# Altium schematic symbol library mcu_stm32.SchLib: 42 symbols (part 2 of 5)
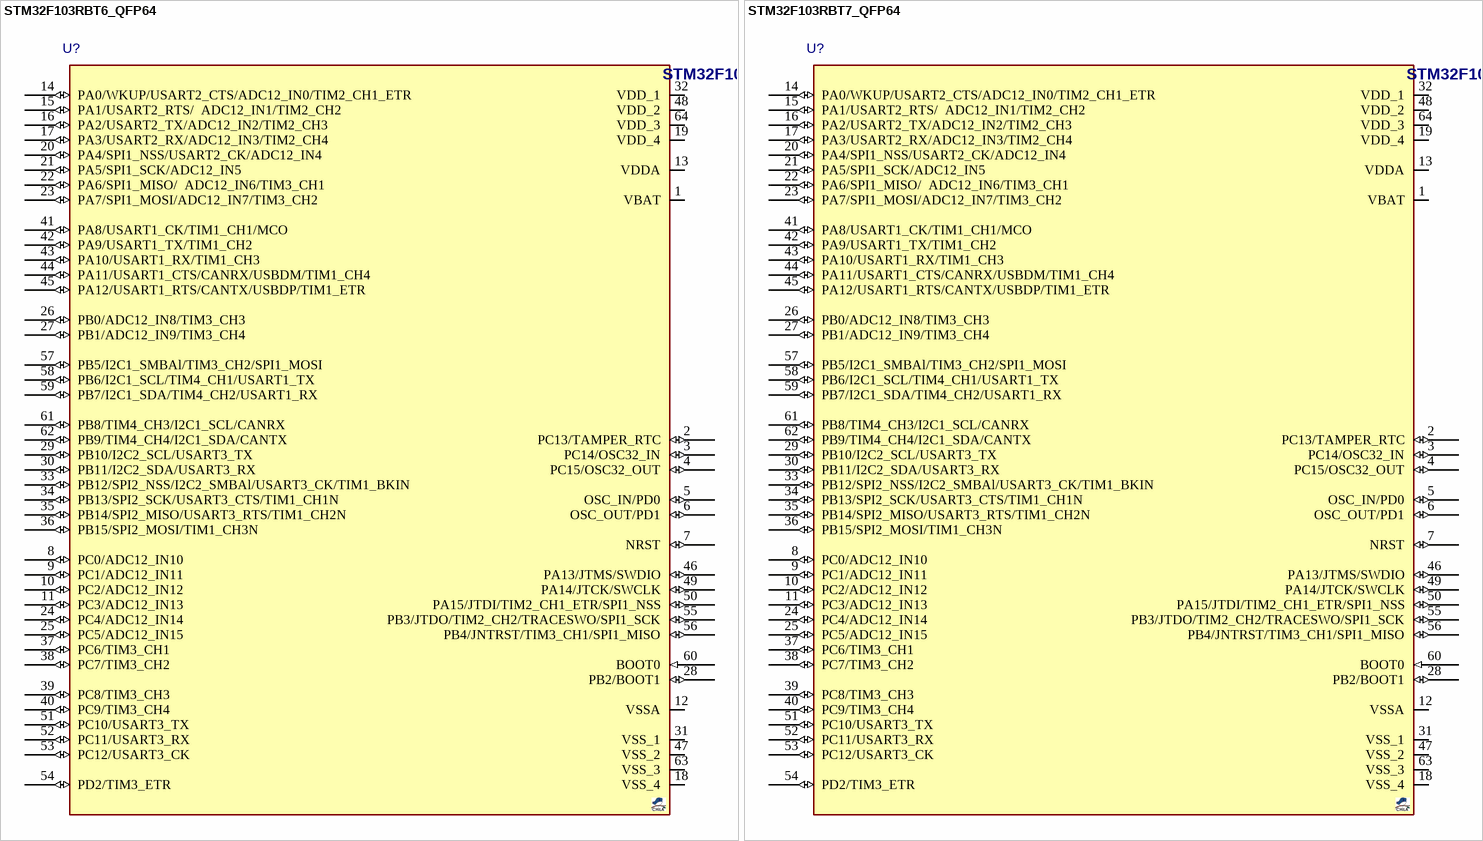
[diagram p30: symbols STM32F103RBT6_QFP64 to STM32F103RBT7_QFP64]

## STM32F103RBT6_QFP64
designator U?, comment STM32F103RBT6  (value not drawn)
MCU, STM32 ARM 32-bit, Cortex M3, 128KB FLASH, 20KB SRAM; DESC: USB, CAN, I2C, SPI, UART; MANF: ST; PARAM2: 2~3.6VCC, 72MHz, 2X12Bit ADC; PARAM: 128KB FLASH, 20KB SRAM, -40~85oC; MANF_P#: STM32F103RBT6; PRICE: 7$; VALUE: STM32F103RBT6; PACKAGE: QFP-64
footprint QFG50_64 (A64 (CYPRESS), TQFP64, LQFP64, VQ44, VQG44, 10X10mm, Pitch: 0.5mm)
pins: 1 VBAT (power), 2 PC13/TAMPER_RTC (io) "PC13-TAMPER-RTC/PC13/TAMPER-RTC", 3 PC14/OSC32_IN (io) "PC14-OSC32_IN/PC14/OSC32_IN", 4 PC15/OSC32_OUT (io) "PC15-OSC32_OUT/PC15/OSC32_OUT", 5 OSC_IN/PD0 (io) "PD0/OSC_IN/CAN_RX", 6 OSC_OUT/PD1 (io) "PD1/OSC_OUT/CAN_TX", 7 NRST (io), 8 PC0/ADC12_IN10 (io) "PC0/ADC123_IN10", 9 PC1/ADC12_IN11 (io) "PC1/ADC123_IN11", 10 PC2/ADC12_IN12 (io) "PC2/ADC123_IN12", 11 PC3/ADC12_IN13 (io) "PC3/ADC123_IN13", 12 VSSA (power), 13 VDDA (power), 14 PA0/WKUP/USART2_CTS/ADC12_IN0/TIM2_CH1_ETR (io) "PA0-WKUP/PA0/WKUP/USART2_CTS/ADC123_IN0/TIM2_CH1_ETR/TIM5_CH1/TIM8_ETR", 15 PA1/USART2_RTS/  ADC12_IN1/TIM2_CH2 (io) "PA1/USART2_RTS/ADC123_IN1/TIM5_CH2/TIM2_CH2", 16 PA2/USART2_TX/ADC12_IN2/TIM2_CH3 (io) "PA2/USART2_TX/TIM5_CH3/ADC123_IN2/TIM2_CH3", 17 PA3/USART2_RX/ADC12_IN3/TIM2_CH4 (io) "PA3/USART2_RX/TIM5_CH4/ADC123_IN3/TIM2_CH4", 18 VSS_4 (power), 19 VDD_4 (power), 20 PA4/SPI1_NSS/USART2_CK/ADC12_IN4 (io) "PA4/SPI1_NSS/USART2_CK/DAC_OUT1/ADC12_IN4", 21 PA5/SPI1_SCK/ADC12_IN5 (io) "PA5/SPI1_SCK/DAC_OUT2/ADC12_IN5", 22 PA6/SPI1_MISO/  ADC12_IN6/TIM3_CH1 (io) "PA6/SPI1_MISO/TIM8_BKIN/ADC12_IN6/TIM3_CH1/TIM1_BKIN", 23 PA7/SPI1_MOSI/ADC12_IN7/TIM3_CH2 (io) "PA7/SPI1_MOSI/TIM8_CH1N/ADC12_IN7/TIM3_CH2/TIM1_CH1N", 24 PC4/ADC12_IN14 (io), 25 PC5/ADC12_IN15 (io), 26 PB0/ADC12_IN8/TIM3_CH3 (io) "PB0/ADC12_IN8/TIM3_CH3/TIM8_CH2N/TIM1_CH2N", 27 PB1/ADC12_IN9/TIM3_CH4 (io) "PB1/ADC12_IN9/TIM3_CH4/TIM8_CH3N/TIM1_CH3N", 28 PB2/BOOT1 (io), 29 PB10/I2C2_SCL/USART3_TX (io) "PB10/I2C2_SCL/USART3_TX/TIM2_CH3", 30 PB11/I2C2_SDA/USART3_RX (io) "PB11/I2C2_SDA/USART3_RX/TIM2_CH4", 31 VSS_1 (power), 32 VDD_1 (power), 33 PB12/SPI2_NSS/I2C2_SMBAl/USART3_CK/TIM1_BKIN (io) "PB12/SPI2_NSS/I2S2_WS/I2C2_SMBA/USART3_CK/TIM1_BKIN", 34 PB13/SPI2_SCK/USART3_CTS/TIM1_CH1N (io) "PB13/SPI2_SCK/I2S2_CK/USART3_CTS/TIM1_CH1N", 35 PB14/SPI2_MISO/USART3_RTS/TIM1_CH2N (io) "PB14/SPI2_MISO/TIM1_CH2N/USART3_RTS", 36 PB15/SPI2_MOSI/TIM1_CH3N (io) "PB15/SPI2_MOSI/I2S2_SD/TIM1_CH3N", 37 PC6/TIM3_CH1 (io) "PC6/I2S2_MCK/TIM8_CH1/SDIO_D6/TIM3_CH1", 38 PC7/TIM3_CH2 (io) "PC7/I2S3_MCK/TIM8_CH2/SDIO_D7/TIM3_CH2", 39 PC8/TIM3_CH3 (io) "PC8/TIM8_CH3/SDIO_D0/TIM3_CH3", 40 PC9/TIM3_CH4 (io) "PC9/TIM8_CH4/SDIO_D1/TIM3_CH4", 41 PA8/USART1_CK/TIM1_CH1/MCO (io), 42 PA9/USART1_TX/TIM1_CH2 (io), 43 PA10/USART1_RX/TIM1_CH3 (io), 44 PA11/USART1_CTS/CANRX/USBDM/TIM1_CH4 (io) "PA11/USART1_CTS/USBDM/CAN_RX/TIM1_CH4", 45 PA12/USART1_RTS/CANTX/USBDP/TIM1_ETR (io) "PA12/USART1_RTS/USBDP/CAN_TX/TIM1_ETR", 46 PA13/JTMS/SWDIO (io) "PA13/JTMS-SWDIO", 47 VSS_2 (power), 48 VDD_2 (power), 49 PA14/JTCK/SWCLK (io) "PA14/JTCK-SWCLK", 50 PA15/JTDI/TIM2_CH1_ETR/SPI1_NSS (io) "PA15/JTDI/SPI3_NSS/I2S3_WS/TIM2_CH1_ETR/SPI1_NSS", 51 PC10/USART3_TX (io) "PC10/UART4_TX/SDIO_D2/USART3_TX", 52 PC11/USART3_RX (io) "PC11/UART4_RX/SDIO_D3/USART3_RX", 53 PC12/USART3_CK (io) "PC12/UART5_TX/SDIO_CK/USART3_CK", 54 PD2/TIM3_ETR (io) "PD2/TIM3_ETR/UART5_RX/SDIO_CMD", 55 PB3/JTDO/TIM2_CH2/TRACESWO/SPI1_SCK (io) "PB3/JTDO/SPI3_SCK/I2S3_CK/TRACESWO/TIM2_CH2/SPI1_SCK", 56 PB4/JNTRST/TIM3_CH1/SPI1_MISO (io) "PB4/NJTRST/SPI3_MISO/TIM3_CH1/SPI1_MISO", 57 PB5/I2C1_SMBAl/TIM3_CH2/SPI1_MOSI (io) "PB5/I2C1_SMBA/SPI3_MOSI/I2S3_SD/TIM3_CH2/SPI1_MOSI", 58 PB6/I2C1_SCL/TIM4_CH1/USART1_TX (io), 59 PB7/I2C1_SDA/TIM4_CH2/USART1_RX (io), 60 BOOT0 (in), 61 PB8/TIM4_CH3/I2C1_SCL/CANRX (io) "PB8/TIM4_CH3/SDIO_D4/I2C1_SCL/CAN_RX", 62 PB9/TIM4_CH4/I2C1_SDA/CANTX (io) "PB9/TIM4_CH4/SDIO_D5/I2C1_SDA/CAN_TX", 63 VSS_3 (power), 64 VDD_3 (power)
text: STM32F103

## STM32F103RBT7_QFP64
designator U?, comment STM32F103RBT7  (value not drawn)
MCU, STM32 ARM 32-bit, Cortex M3, 128KB FLASH, 20KB SRAM; DESC: USB, CAN, I2C, SPI, UART; MANF: ST; PARAM2: 2~3.6VCC, 72MHz, 2X12Bit ADC; PARAM: 128KB FLASH, 20KB SRAM, -40~105oC; MANF_P#: STM32F103RBT7; PRICE: 9$; VALUE: STM32F103RBT7; PACKAGE: QFP-64
footprint QFG50_64 (A64 (CYPRESS), TQFP64, LQFP64, VQ44, VQG44, 10X10mm, Pitch: 0.5mm)
pins: 1 VBAT (power), 2 PC13/TAMPER_RTC (io) "PC13-TAMPER-RTC/PC13/TAMPER-RTC", 3 PC14/OSC32_IN (io) "PC14-OSC32_IN/PC14/OSC32_IN", 4 PC15/OSC32_OUT (io) "PC15-OSC32_OUT/PC15/OSC32_OUT", 5 OSC_IN/PD0 (io) "PD0/OSC_IN/CAN_RX", 6 OSC_OUT/PD1 (io) "PD1/OSC_OUT/CAN_TX", 7 NRST (io), 8 PC0/ADC12_IN10 (io) "PC0/ADC123_IN10", 9 PC1/ADC12_IN11 (io) "PC1/ADC123_IN11", 10 PC2/ADC12_IN12 (io) "PC2/ADC123_IN12", 11 PC3/ADC12_IN13 (io) "PC3/ADC123_IN13", 12 VSSA (power), 13 VDDA (power), 14 PA0/WKUP/USART2_CTS/ADC12_IN0/TIM2_CH1_ETR (io) "PA0-WKUP/PA0/WKUP/USART2_CTS/ADC123_IN0/TIM2_CH1_ETR/TIM5_CH1/TIM8_ETR", 15 PA1/USART2_RTS/  ADC12_IN1/TIM2_CH2 (io) "PA1/USART2_RTS/ADC123_IN1/TIM5_CH2/TIM2_CH2", 16 PA2/USART2_TX/ADC12_IN2/TIM2_CH3 (io) "PA2/USART2_TX/TIM5_CH3/ADC123_IN2/TIM2_CH3", 17 PA3/USART2_RX/ADC12_IN3/TIM2_CH4 (io) "PA3/USART2_RX/TIM5_CH4/ADC123_IN3/TIM2_CH4", 18 VSS_4 (power), 19 VDD_4 (power), 20 PA4/SPI1_NSS/USART2_CK/ADC12_IN4 (io) "PA4/SPI1_NSS/USART2_CK/DAC_OUT1/ADC12_IN4", 21 PA5/SPI1_SCK/ADC12_IN5 (io) "PA5/SPI1_SCK/DAC_OUT2/ADC12_IN5", 22 PA6/SPI1_MISO/  ADC12_IN6/TIM3_CH1 (io) "PA6/SPI1_MISO/TIM8_BKIN/ADC12_IN6/TIM3_CH1/TIM1_BKIN", 23 PA7/SPI1_MOSI/ADC12_IN7/TIM3_CH2 (io) "PA7/SPI1_MOSI/TIM8_CH1N/ADC12_IN7/TIM3_CH2/TIM1_CH1N", 24 PC4/ADC12_IN14 (io), 25 PC5/ADC12_IN15 (io), 26 PB0/ADC12_IN8/TIM3_CH3 (io) "PB0/ADC12_IN8/TIM3_CH3/TIM8_CH2N/TIM1_CH2N", 27 PB1/ADC12_IN9/TIM3_CH4 (io) "PB1/ADC12_IN9/TIM3_CH4/TIM8_CH3N/TIM1_CH3N", 28 PB2/BOOT1 (io), 29 PB10/I2C2_SCL/USART3_TX (io) "PB10/I2C2_SCL/USART3_TX/TIM2_CH3", 30 PB11/I2C2_SDA/USART3_RX (io) "PB11/I2C2_SDA/USART3_RX/TIM2_CH4", 31 VSS_1 (power), 32 VDD_1 (power), 33 PB12/SPI2_NSS/I2C2_SMBAl/USART3_CK/TIM1_BKIN (io) "PB12/SPI2_NSS/I2S2_WS/I2C2_SMBA/USART3_CK/TIM1_BKIN", 34 PB13/SPI2_SCK/USART3_CTS/TIM1_CH1N (io) "PB13/SPI2_SCK/I2S2_CK/USART3_CTS/TIM1_CH1N", 35 PB14/SPI2_MISO/USART3_RTS/TIM1_CH2N (io) "PB14/SPI2_MISO/TIM1_CH2N/USART3_RTS", 36 PB15/SPI2_MOSI/TIM1_CH3N (io) "PB15/SPI2_MOSI/I2S2_SD/TIM1_CH3N", 37 PC6/TIM3_CH1 (io) "PC6/I2S2_MCK/TIM8_CH1/SDIO_D6/TIM3_CH1", 38 PC7/TIM3_CH2 (io) "PC7/I2S3_MCK/TIM8_CH2/SDIO_D7/TIM3_CH2", 39 PC8/TIM3_CH3 (io) "PC8/TIM8_CH3/SDIO_D0/TIM3_CH3", 40 PC9/TIM3_CH4 (io) "PC9/TIM8_CH4/SDIO_D1/TIM3_CH4", 41 PA8/USART1_CK/TIM1_CH1/MCO (io), 42 PA9/USART1_TX/TIM1_CH2 (io), 43 PA10/USART1_RX/TIM1_CH3 (io), 44 PA11/USART1_CTS/CANRX/USBDM/TIM1_CH4 (io) "PA11/USART1_CTS/USBDM/CAN_RX/TIM1_CH4", 45 PA12/USART1_RTS/CANTX/USBDP/TIM1_ETR (io) "PA12/USART1_RTS/USBDP/CAN_TX/TIM1_ETR", 46 PA13/JTMS/SWDIO (io) "PA13/JTMS-SWDIO", 47 VSS_2 (power), 48 VDD_2 (power), 49 PA14/JTCK/SWCLK (io) "PA14/JTCK-SWCLK", 50 PA15/JTDI/TIM2_CH1_ETR/SPI1_NSS (io) "PA15/JTDI/SPI3_NSS/I2S3_WS/TIM2_CH1_ETR/SPI1_NSS", 51 PC10/USART3_TX (io) "PC10/UART4_TX/SDIO_D2/USART3_TX", 52 PC11/USART3_RX (io) "PC11/UART4_RX/SDIO_D3/USART3_RX", 53 PC12/USART3_CK (io) "PC12/UART5_TX/SDIO_CK/USART3_CK", 54 PD2/TIM3_ETR (io) "PD2/TIM3_ETR/UART5_RX/SDIO_CMD", 55 PB3/JTDO/TIM2_CH2/TRACESWO/SPI1_SCK (io) "PB3/JTDO/SPI3_SCK/I2S3_CK/TRACESWO/TIM2_CH2/SPI1_SCK", 56 PB4/JNTRST/TIM3_CH1/SPI1_MISO (io) "PB4/NJTRST/SPI3_MISO/TIM3_CH1/SPI1_MISO", 57 PB5/I2C1_SMBAl/TIM3_CH2/SPI1_MOSI (io) "PB5/I2C1_SMBA/SPI3_MOSI/I2S3_SD/TIM3_CH2/SPI1_MOSI", 58 PB6/I2C1_SCL/TIM4_CH1/USART1_TX (io), 59 PB7/I2C1_SDA/TIM4_CH2/USART1_RX (io), 60 BOOT0 (in), 61 PB8/TIM4_CH3/I2C1_SCL/CANRX (io) "PB8/TIM4_CH3/SDIO_D4/I2C1_SCL/CAN_RX", 62 PB9/TIM4_CH4/I2C1_SDA/CANTX (io) "PB9/TIM4_CH4/SDIO_D5/I2C1_SDA/CAN_TX", 63 VSS_3 (power), 64 VDD_3 (power)
text: STM32F103

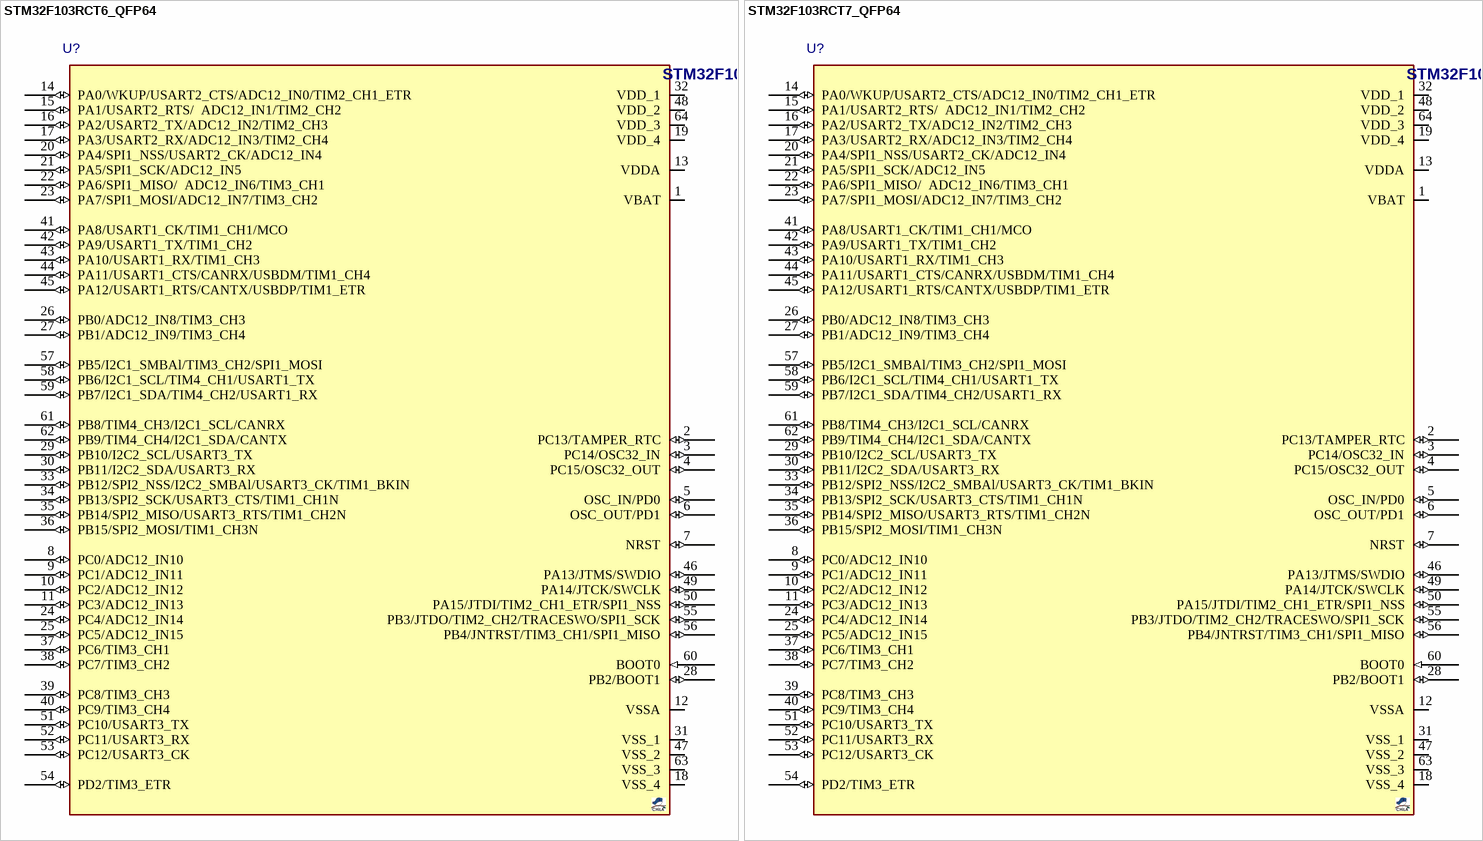
[diagram p8: symbols STM32F103RCT6_QFP64 to STM32F103RCT7_QFP64]

## STM32F103RCT6_QFP64
designator U?, comment STM32F103RCT6  (value not drawn)
MCU, STM32 ARM 32-bit, Cortex M3, 256KB FLASH, 48KB SRAM; DESC: USB, CAN, I2C, SPI, UART; MANF: ST; PARAM2: 2~3.6VCC, 72MHz, 2X12Bit ADC; PARAM: 256KB FLASH, 48KB SRAM, -40~85oC; MANF_P#: STM32F103RCT6; PRICE: 6$; VALUE: STM32F103RCT6; PACKAGE: QFP-64
footprint QFG50_64 (A64 (CYPRESS), TQFP64, LQFP64, VQ44, VQG44, 10X10mm, Pitch: 0.5mm)
pins: 1 VBAT (power), 2 PC13/TAMPER_RTC (io) "PC13-TAMPER-RTC/PC13/TAMPER-RTC", 3 PC14/OSC32_IN (io) "PC14-OSC32_IN/PC14/OSC32_IN", 4 PC15/OSC32_OUT (io) "PC15-OSC32_OUT/PC15/OSC32_OUT", 5 OSC_IN/PD0 (io) "PD0/OSC_IN/CAN_RX", 6 OSC_OUT/PD1 (io) "PD1/OSC_OUT/CAN_TX", 7 NRST (io), 8 PC0/ADC12_IN10 (io) "PC0/ADC123_IN10", 9 PC1/ADC12_IN11 (io) "PC1/ADC123_IN11", 10 PC2/ADC12_IN12 (io) "PC2/ADC123_IN12", 11 PC3/ADC12_IN13 (io) "PC3/ADC123_IN13", 12 VSSA (power), 13 VDDA (power), 14 PA0/WKUP/USART2_CTS/ADC12_IN0/TIM2_CH1_ETR (io) "PA0-WKUP/PA0/WKUP/USART2_CTS/ADC123_IN0/TIM2_CH1_ETR/TIM5_CH1/TIM8_ETR", 15 PA1/USART2_RTS/  ADC12_IN1/TIM2_CH2 (io) "PA1/USART2_RTS/ADC123_IN1/TIM5_CH2/TIM2_CH2", 16 PA2/USART2_TX/ADC12_IN2/TIM2_CH3 (io) "PA2/USART2_TX/TIM5_CH3/ADC123_IN2/TIM2_CH3", 17 PA3/USART2_RX/ADC12_IN3/TIM2_CH4 (io) "PA3/USART2_RX/TIM5_CH4/ADC123_IN3/TIM2_CH4", 18 VSS_4 (power), 19 VDD_4 (power), 20 PA4/SPI1_NSS/USART2_CK/ADC12_IN4 (io) "PA4/SPI1_NSS/USART2_CK/DAC_OUT1/ADC12_IN4", 21 PA5/SPI1_SCK/ADC12_IN5 (io) "PA5/SPI1_SCK/DAC_OUT2/ADC12_IN5", 22 PA6/SPI1_MISO/  ADC12_IN6/TIM3_CH1 (io) "PA6/SPI1_MISO/TIM8_BKIN/ADC12_IN6/TIM3_CH1/TIM1_BKIN", 23 PA7/SPI1_MOSI/ADC12_IN7/TIM3_CH2 (io) "PA7/SPI1_MOSI/TIM8_CH1N/ADC12_IN7/TIM3_CH2/TIM1_CH1N", 24 PC4/ADC12_IN14 (io), 25 PC5/ADC12_IN15 (io), 26 PB0/ADC12_IN8/TIM3_CH3 (io) "PB0/ADC12_IN8/TIM3_CH3/TIM8_CH2N/TIM1_CH2N", 27 PB1/ADC12_IN9/TIM3_CH4 (io) "PB1/ADC12_IN9/TIM3_CH4/TIM8_CH3N/TIM1_CH3N", 28 PB2/BOOT1 (io), 29 PB10/I2C2_SCL/USART3_TX (io) "PB10/I2C2_SCL/USART3_TX/TIM2_CH3", 30 PB11/I2C2_SDA/USART3_RX (io) "PB11/I2C2_SDA/USART3_RX/TIM2_CH4", 31 VSS_1 (power), 32 VDD_1 (power), 33 PB12/SPI2_NSS/I2C2_SMBAl/USART3_CK/TIM1_BKIN (io) "PB12/SPI2_NSS/I2S2_WS/I2C2_SMBA/USART3_CK/TIM1_BKIN", 34 PB13/SPI2_SCK/USART3_CTS/TIM1_CH1N (io) "PB13/SPI2_SCK/I2S2_CK/USART3_CTS/TIM1_CH1N", 35 PB14/SPI2_MISO/USART3_RTS/TIM1_CH2N (io) "PB14/SPI2_MISO/TIM1_CH2N/USART3_RTS", 36 PB15/SPI2_MOSI/TIM1_CH3N (io) "PB15/SPI2_MOSI/I2S2_SD/TIM1_CH3N", 37 PC6/TIM3_CH1 (io) "PC6/I2S2_MCK/TIM8_CH1/SDIO_D6/TIM3_CH1", 38 PC7/TIM3_CH2 (io) "PC7/I2S3_MCK/TIM8_CH2/SDIO_D7/TIM3_CH2", 39 PC8/TIM3_CH3 (io) "PC8/TIM8_CH3/SDIO_D0/TIM3_CH3", 40 PC9/TIM3_CH4 (io) "PC9/TIM8_CH4/SDIO_D1/TIM3_CH4", 41 PA8/USART1_CK/TIM1_CH1/MCO (io), 42 PA9/USART1_TX/TIM1_CH2 (io), 43 PA10/USART1_RX/TIM1_CH3 (io), 44 PA11/USART1_CTS/CANRX/USBDM/TIM1_CH4 (io) "PA11/USART1_CTS/USBDM/CAN_RX/TIM1_CH4", 45 PA12/USART1_RTS/CANTX/USBDP/TIM1_ETR (io) "PA12/USART1_RTS/USBDP/CAN_TX/TIM1_ETR", 46 PA13/JTMS/SWDIO (io) "PA13/JTMS-SWDIO", 47 VSS_2 (power), 48 VDD_2 (power), 49 PA14/JTCK/SWCLK (io) "PA14/JTCK-SWCLK", 50 PA15/JTDI/TIM2_CH1_ETR/SPI1_NSS (io) "PA15/JTDI/SPI3_NSS/I2S3_WS/TIM2_CH1_ETR/SPI1_NSS", 51 PC10/USART3_TX (io) "PC10/UART4_TX/SDIO_D2/USART3_TX", 52 PC11/USART3_RX (io) "PC11/UART4_RX/SDIO_D3/USART3_RX", 53 PC12/USART3_CK (io) "PC12/UART5_TX/SDIO_CK/USART3_CK", 54 PD2/TIM3_ETR (io) "PD2/TIM3_ETR/UART5_RX/SDIO_CMD", 55 PB3/JTDO/TIM2_CH2/TRACESWO/SPI1_SCK (io) "PB3/JTDO/SPI3_SCK/I2S3_CK/TRACESWO/TIM2_CH2/SPI1_SCK", 56 PB4/JNTRST/TIM3_CH1/SPI1_MISO (io) "PB4/NJTRST/SPI3_MISO/TIM3_CH1/SPI1_MISO", 57 PB5/I2C1_SMBAl/TIM3_CH2/SPI1_MOSI (io) "PB5/I2C1_SMBA/SPI3_MOSI/I2S3_SD/TIM3_CH2/SPI1_MOSI", 58 PB6/I2C1_SCL/TIM4_CH1/USART1_TX (io), 59 PB7/I2C1_SDA/TIM4_CH2/USART1_RX (io), 60 BOOT0 (in), 61 PB8/TIM4_CH3/I2C1_SCL/CANRX (io) "PB8/TIM4_CH3/SDIO_D4/I2C1_SCL/CAN_RX", 62 PB9/TIM4_CH4/I2C1_SDA/CANTX (io) "PB9/TIM4_CH4/SDIO_D5/I2C1_SDA/CAN_TX", 63 VSS_3 (power), 64 VDD_3 (power)
text: STM32F103

## STM32F103RCT7_QFP64
designator U?, comment STM32F103RCT7  (value not drawn)
MCU, STM32 ARM 32-bit, Cortex M3, 256KB FLASH, 48KB SRAM; DESC: USB, CAN, I2C, SPI, UART; MANF: ST; PARAM2: 2~3.6VCC, 72MHz, 2X12Bit ADC; PARAM: 256KB FLASH, 48KB SRAM, -40~105oC; MANF_P#: STM32F103RCT7; PRICE: 7.5$; VALUE: STM32F103RCT7; PACKAGE: QFP-64
footprint QFG50_64 (A64 (CYPRESS), TQFP64, LQFP64, VQ44, VQG44, 10X10mm, Pitch: 0.5mm)
pins: 1 VBAT (power), 2 PC13/TAMPER_RTC (io) "PC13-TAMPER-RTC/PC13/TAMPER-RTC", 3 PC14/OSC32_IN (io) "PC14-OSC32_IN/PC14/OSC32_IN", 4 PC15/OSC32_OUT (io) "PC15-OSC32_OUT/PC15/OSC32_OUT", 5 OSC_IN/PD0 (io) "PD0/OSC_IN/CAN_RX", 6 OSC_OUT/PD1 (io) "PD1/OSC_OUT/CAN_TX", 7 NRST (io), 8 PC0/ADC12_IN10 (io) "PC0/ADC123_IN10", 9 PC1/ADC12_IN11 (io) "PC1/ADC123_IN11", 10 PC2/ADC12_IN12 (io) "PC2/ADC123_IN12", 11 PC3/ADC12_IN13 (io) "PC3/ADC123_IN13", 12 VSSA (power), 13 VDDA (power), 14 PA0/WKUP/USART2_CTS/ADC12_IN0/TIM2_CH1_ETR (io) "PA0-WKUP/PA0/WKUP/USART2_CTS/ADC123_IN0/TIM2_CH1_ETR/TIM5_CH1/TIM8_ETR", 15 PA1/USART2_RTS/  ADC12_IN1/TIM2_CH2 (io) "PA1/USART2_RTS/ADC123_IN1/TIM5_CH2/TIM2_CH2", 16 PA2/USART2_TX/ADC12_IN2/TIM2_CH3 (io) "PA2/USART2_TX/TIM5_CH3/ADC123_IN2/TIM2_CH3", 17 PA3/USART2_RX/ADC12_IN3/TIM2_CH4 (io) "PA3/USART2_RX/TIM5_CH4/ADC123_IN3/TIM2_CH4", 18 VSS_4 (power), 19 VDD_4 (power), 20 PA4/SPI1_NSS/USART2_CK/ADC12_IN4 (io) "PA4/SPI1_NSS/USART2_CK/DAC_OUT1/ADC12_IN4", 21 PA5/SPI1_SCK/ADC12_IN5 (io) "PA5/SPI1_SCK/DAC_OUT2/ADC12_IN5", 22 PA6/SPI1_MISO/  ADC12_IN6/TIM3_CH1 (io) "PA6/SPI1_MISO/TIM8_BKIN/ADC12_IN6/TIM3_CH1/TIM1_BKIN", 23 PA7/SPI1_MOSI/ADC12_IN7/TIM3_CH2 (io) "PA7/SPI1_MOSI/TIM8_CH1N/ADC12_IN7/TIM3_CH2/TIM1_CH1N", 24 PC4/ADC12_IN14 (io), 25 PC5/ADC12_IN15 (io), 26 PB0/ADC12_IN8/TIM3_CH3 (io) "PB0/ADC12_IN8/TIM3_CH3/TIM8_CH2N/TIM1_CH2N", 27 PB1/ADC12_IN9/TIM3_CH4 (io) "PB1/ADC12_IN9/TIM3_CH4/TIM8_CH3N/TIM1_CH3N", 28 PB2/BOOT1 (io), 29 PB10/I2C2_SCL/USART3_TX (io) "PB10/I2C2_SCL/USART3_TX/TIM2_CH3", 30 PB11/I2C2_SDA/USART3_RX (io) "PB11/I2C2_SDA/USART3_RX/TIM2_CH4", 31 VSS_1 (power), 32 VDD_1 (power), 33 PB12/SPI2_NSS/I2C2_SMBAl/USART3_CK/TIM1_BKIN (io) "PB12/SPI2_NSS/I2S2_WS/I2C2_SMBA/USART3_CK/TIM1_BKIN", 34 PB13/SPI2_SCK/USART3_CTS/TIM1_CH1N (io) "PB13/SPI2_SCK/I2S2_CK/USART3_CTS/TIM1_CH1N", 35 PB14/SPI2_MISO/USART3_RTS/TIM1_CH2N (io) "PB14/SPI2_MISO/TIM1_CH2N/USART3_RTS", 36 PB15/SPI2_MOSI/TIM1_CH3N (io) "PB15/SPI2_MOSI/I2S2_SD/TIM1_CH3N", 37 PC6/TIM3_CH1 (io) "PC6/I2S2_MCK/TIM8_CH1/SDIO_D6/TIM3_CH1", 38 PC7/TIM3_CH2 (io) "PC7/I2S3_MCK/TIM8_CH2/SDIO_D7/TIM3_CH2", 39 PC8/TIM3_CH3 (io) "PC8/TIM8_CH3/SDIO_D0/TIM3_CH3", 40 PC9/TIM3_CH4 (io) "PC9/TIM8_CH4/SDIO_D1/TIM3_CH4", 41 PA8/USART1_CK/TIM1_CH1/MCO (io), 42 PA9/USART1_TX/TIM1_CH2 (io), 43 PA10/USART1_RX/TIM1_CH3 (io), 44 PA11/USART1_CTS/CANRX/USBDM/TIM1_CH4 (io) "PA11/USART1_CTS/USBDM/CAN_RX/TIM1_CH4", 45 PA12/USART1_RTS/CANTX/USBDP/TIM1_ETR (io) "PA12/USART1_RTS/USBDP/CAN_TX/TIM1_ETR", 46 PA13/JTMS/SWDIO (io) "PA13/JTMS-SWDIO", 47 VSS_2 (power), 48 VDD_2 (power), 49 PA14/JTCK/SWCLK (io) "PA14/JTCK-SWCLK", 50 PA15/JTDI/TIM2_CH1_ETR/SPI1_NSS (io) "PA15/JTDI/SPI3_NSS/I2S3_WS/TIM2_CH1_ETR/SPI1_NSS", 51 PC10/USART3_TX (io) "PC10/UART4_TX/SDIO_D2/USART3_TX", 52 PC11/USART3_RX (io) "PC11/UART4_RX/SDIO_D3/USART3_RX", 53 PC12/USART3_CK (io) "PC12/UART5_TX/SDIO_CK/USART3_CK", 54 PD2/TIM3_ETR (io) "PD2/TIM3_ETR/UART5_RX/SDIO_CMD", 55 PB3/JTDO/TIM2_CH2/TRACESWO/SPI1_SCK (io) "PB3/JTDO/SPI3_SCK/I2S3_CK/TRACESWO/TIM2_CH2/SPI1_SCK", 56 PB4/JNTRST/TIM3_CH1/SPI1_MISO (io) "PB4/NJTRST/SPI3_MISO/TIM3_CH1/SPI1_MISO", 57 PB5/I2C1_SMBAl/TIM3_CH2/SPI1_MOSI (io) "PB5/I2C1_SMBA/SPI3_MOSI/I2S3_SD/TIM3_CH2/SPI1_MOSI", 58 PB6/I2C1_SCL/TIM4_CH1/USART1_TX (io), 59 PB7/I2C1_SDA/TIM4_CH2/USART1_RX (io), 60 BOOT0 (in), 61 PB8/TIM4_CH3/I2C1_SCL/CANRX (io) "PB8/TIM4_CH3/SDIO_D4/I2C1_SCL/CAN_RX", 62 PB9/TIM4_CH4/I2C1_SDA/CANTX (io) "PB9/TIM4_CH4/SDIO_D5/I2C1_SDA/CAN_TX", 63 VSS_3 (power), 64 VDD_3 (power)
text: STM32F103

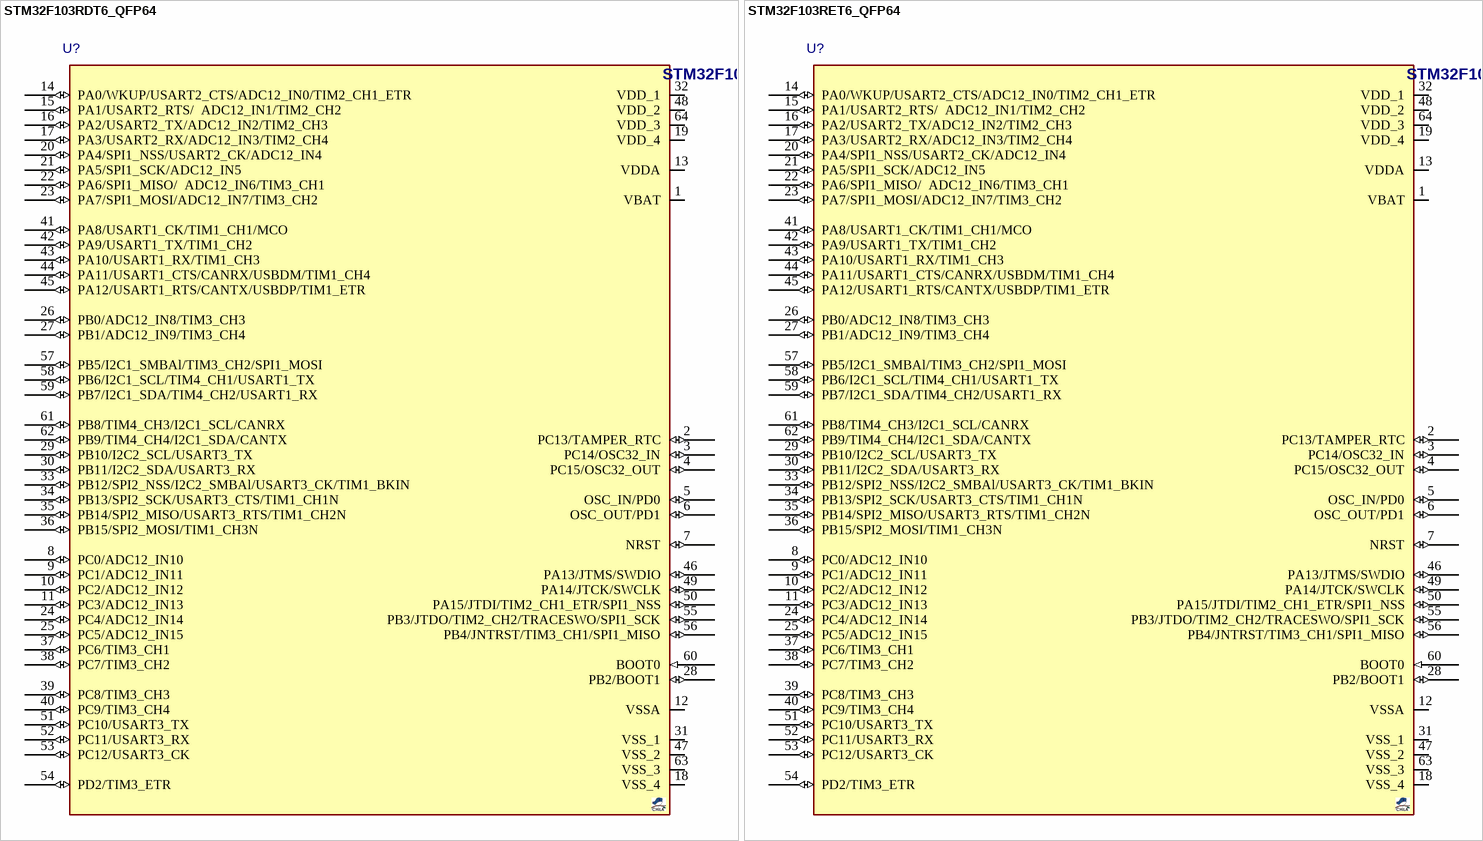
[diagram p9: symbols STM32F103RDT6_QFP64 to STM32F103RET6_QFP64]

## STM32F103RDT6_QFP64
designator U?, comment STM32F103RDT6  (value not drawn)
MCU, STM32 ARM 32-bit, Cortex M3, 384KB FLASH, 64KB SRAM; DESC: USB, CAN, I2C, SPI, UART; MANF: ST; PARAM2: 2~3.6VCC, 72MHz, 2X12Bit ADC; PARAM: 384KB FLASH, 64KB SRAM, -40~85oC; MANF_P#: STM32F103RDT6; PRICE: 9$; VALUE: STM32F103RDT6; PACKAGE: QFP-64
footprint QFG50_64 (A64 (CYPRESS), TQFP64, LQFP64, VQ44, VQG44, 10X10mm, Pitch: 0.5mm)
pins: 1 VBAT (power), 2 PC13/TAMPER_RTC (io) "PC13-TAMPER-RTC/PC13/TAMPER-RTC", 3 PC14/OSC32_IN (io) "PC14-OSC32_IN/PC14/OSC32_IN", 4 PC15/OSC32_OUT (io) "PC15-OSC32_OUT/PC15/OSC32_OUT", 5 OSC_IN/PD0 (io) "PD0/OSC_IN/CAN_RX", 6 OSC_OUT/PD1 (io) "PD1/OSC_OUT/CAN_TX", 7 NRST (io), 8 PC0/ADC12_IN10 (io) "PC0/ADC123_IN10", 9 PC1/ADC12_IN11 (io) "PC1/ADC123_IN11", 10 PC2/ADC12_IN12 (io) "PC2/ADC123_IN12", 11 PC3/ADC12_IN13 (io) "PC3/ADC123_IN13", 12 VSSA (power), 13 VDDA (power), 14 PA0/WKUP/USART2_CTS/ADC12_IN0/TIM2_CH1_ETR (io) "PA0-WKUP/PA0/WKUP/USART2_CTS/ADC123_IN0/TIM2_CH1_ETR/TIM5_CH1/TIM8_ETR", 15 PA1/USART2_RTS/  ADC12_IN1/TIM2_CH2 (io) "PA1/USART2_RTS/ADC123_IN1/TIM5_CH2/TIM2_CH2", 16 PA2/USART2_TX/ADC12_IN2/TIM2_CH3 (io) "PA2/USART2_TX/TIM5_CH3/ADC123_IN2/TIM2_CH3", 17 PA3/USART2_RX/ADC12_IN3/TIM2_CH4 (io) "PA3/USART2_RX/TIM5_CH4/ADC123_IN3/TIM2_CH4", 18 VSS_4 (power), 19 VDD_4 (power), 20 PA4/SPI1_NSS/USART2_CK/ADC12_IN4 (io) "PA4/SPI1_NSS/USART2_CK/DAC_OUT1/ADC12_IN4", 21 PA5/SPI1_SCK/ADC12_IN5 (io) "PA5/SPI1_SCK/DAC_OUT2/ADC12_IN5", 22 PA6/SPI1_MISO/  ADC12_IN6/TIM3_CH1 (io) "PA6/SPI1_MISO/TIM8_BKIN/ADC12_IN6/TIM3_CH1/TIM1_BKIN", 23 PA7/SPI1_MOSI/ADC12_IN7/TIM3_CH2 (io) "PA7/SPI1_MOSI/TIM8_CH1N/ADC12_IN7/TIM3_CH2/TIM1_CH1N", 24 PC4/ADC12_IN14 (io), 25 PC5/ADC12_IN15 (io), 26 PB0/ADC12_IN8/TIM3_CH3 (io) "PB0/ADC12_IN8/TIM3_CH3/TIM8_CH2N/TIM1_CH2N", 27 PB1/ADC12_IN9/TIM3_CH4 (io) "PB1/ADC12_IN9/TIM3_CH4/TIM8_CH3N/TIM1_CH3N", 28 PB2/BOOT1 (io), 29 PB10/I2C2_SCL/USART3_TX (io) "PB10/I2C2_SCL/USART3_TX/TIM2_CH3", 30 PB11/I2C2_SDA/USART3_RX (io) "PB11/I2C2_SDA/USART3_RX/TIM2_CH4", 31 VSS_1 (power), 32 VDD_1 (power), 33 PB12/SPI2_NSS/I2C2_SMBAl/USART3_CK/TIM1_BKIN (io) "PB12/SPI2_NSS/I2S2_WS/I2C2_SMBA/USART3_CK/TIM1_BKIN", 34 PB13/SPI2_SCK/USART3_CTS/TIM1_CH1N (io) "PB13/SPI2_SCK/I2S2_CK/USART3_CTS/TIM1_CH1N", 35 PB14/SPI2_MISO/USART3_RTS/TIM1_CH2N (io) "PB14/SPI2_MISO/TIM1_CH2N/USART3_RTS", 36 PB15/SPI2_MOSI/TIM1_CH3N (io) "PB15/SPI2_MOSI/I2S2_SD/TIM1_CH3N", 37 PC6/TIM3_CH1 (io) "PC6/I2S2_MCK/TIM8_CH1/SDIO_D6/TIM3_CH1", 38 PC7/TIM3_CH2 (io) "PC7/I2S3_MCK/TIM8_CH2/SDIO_D7/TIM3_CH2", 39 PC8/TIM3_CH3 (io) "PC8/TIM8_CH3/SDIO_D0/TIM3_CH3", 40 PC9/TIM3_CH4 (io) "PC9/TIM8_CH4/SDIO_D1/TIM3_CH4", 41 PA8/USART1_CK/TIM1_CH1/MCO (io), 42 PA9/USART1_TX/TIM1_CH2 (io), 43 PA10/USART1_RX/TIM1_CH3 (io), 44 PA11/USART1_CTS/CANRX/USBDM/TIM1_CH4 (io) "PA11/USART1_CTS/USBDM/CAN_RX/TIM1_CH4", 45 PA12/USART1_RTS/CANTX/USBDP/TIM1_ETR (io) "PA12/USART1_RTS/USBDP/CAN_TX/TIM1_ETR", 46 PA13/JTMS/SWDIO (io) "PA13/JTMS-SWDIO", 47 VSS_2 (power), 48 VDD_2 (power), 49 PA14/JTCK/SWCLK (io) "PA14/JTCK-SWCLK", 50 PA15/JTDI/TIM2_CH1_ETR/SPI1_NSS (io) "PA15/JTDI/SPI3_NSS/I2S3_WS/TIM2_CH1_ETR/SPI1_NSS", 51 PC10/USART3_TX (io) "PC10/UART4_TX/SDIO_D2/USART3_TX", 52 PC11/USART3_RX (io) "PC11/UART4_RX/SDIO_D3/USART3_RX", 53 PC12/USART3_CK (io) "PC12/UART5_TX/SDIO_CK/USART3_CK", 54 PD2/TIM3_ETR (io) "PD2/TIM3_ETR/UART5_RX/SDIO_CMD", 55 PB3/JTDO/TIM2_CH2/TRACESWO/SPI1_SCK (io) "PB3/JTDO/SPI3_SCK/I2S3_CK/TRACESWO/TIM2_CH2/SPI1_SCK", 56 PB4/JNTRST/TIM3_CH1/SPI1_MISO (io) "PB4/NJTRST/SPI3_MISO/TIM3_CH1/SPI1_MISO", 57 PB5/I2C1_SMBAl/TIM3_CH2/SPI1_MOSI (io) "PB5/I2C1_SMBA/SPI3_MOSI/I2S3_SD/TIM3_CH2/SPI1_MOSI", 58 PB6/I2C1_SCL/TIM4_CH1/USART1_TX (io), 59 PB7/I2C1_SDA/TIM4_CH2/USART1_RX (io), 60 BOOT0 (in), 61 PB8/TIM4_CH3/I2C1_SCL/CANRX (io) "PB8/TIM4_CH3/SDIO_D4/I2C1_SCL/CAN_RX", 62 PB9/TIM4_CH4/I2C1_SDA/CANTX (io) "PB9/TIM4_CH4/SDIO_D5/I2C1_SDA/CAN_TX", 63 VSS_3 (power), 64 VDD_3 (power)
text: STM32F103

## STM32F103RET6_QFP64
designator U?, comment STM32F103RET6  (value not drawn)
MCU, STM32 ARM 32-bit, Cortex M3, 512KB FLASH, 64KB SRAM; DESC: USB, CAN, I2C, SPI, UART; MANF: ST; PARAM2: 2~3.6VCC, 72MHz, 2X12Bit ADC; PARAM: 512KB FLASH, 64KB SRAM, -40~85oC; MANF_P#: STM32F103RET6; PRICE: 8$; VALUE: STM32F103RET6; PACKAGE: QFP-64
footprint QFG50_64 (A64 (CYPRESS), TQFP64, LQFP64, VQ44, VQG44, 10X10mm, Pitch: 0.5mm)
pins: 1 VBAT (power), 2 PC13/TAMPER_RTC (io) "PC13-TAMPER-RTC/PC13/TAMPER-RTC", 3 PC14/OSC32_IN (io) "PC14-OSC32_IN/PC14/OSC32_IN", 4 PC15/OSC32_OUT (io) "PC15-OSC32_OUT/PC15/OSC32_OUT", 5 OSC_IN/PD0 (io) "PD0/OSC_IN/CAN_RX", 6 OSC_OUT/PD1 (io) "PD1/OSC_OUT/CAN_TX", 7 NRST (io), 8 PC0/ADC12_IN10 (io) "PC0/ADC123_IN10", 9 PC1/ADC12_IN11 (io) "PC1/ADC123_IN11", 10 PC2/ADC12_IN12 (io) "PC2/ADC123_IN12", 11 PC3/ADC12_IN13 (io) "PC3/ADC123_IN13", 12 VSSA (power), 13 VDDA (power), 14 PA0/WKUP/USART2_CTS/ADC12_IN0/TIM2_CH1_ETR (io) "PA0-WKUP/PA0/WKUP/USART2_CTS/ADC123_IN0/TIM2_CH1_ETR/TIM5_CH1/TIM8_ETR", 15 PA1/USART2_RTS/  ADC12_IN1/TIM2_CH2 (io) "PA1/USART2_RTS/ADC123_IN1/TIM5_CH2/TIM2_CH2", 16 PA2/USART2_TX/ADC12_IN2/TIM2_CH3 (io) "PA2/USART2_TX/TIM5_CH3/ADC123_IN2/TIM2_CH3", 17 PA3/USART2_RX/ADC12_IN3/TIM2_CH4 (io) "PA3/USART2_RX/TIM5_CH4/ADC123_IN3/TIM2_CH4", 18 VSS_4 (power), 19 VDD_4 (power), 20 PA4/SPI1_NSS/USART2_CK/ADC12_IN4 (io) "PA4/SPI1_NSS/USART2_CK/DAC_OUT1/ADC12_IN4", 21 PA5/SPI1_SCK/ADC12_IN5 (io) "PA5/SPI1_SCK/DAC_OUT2/ADC12_IN5", 22 PA6/SPI1_MISO/  ADC12_IN6/TIM3_CH1 (io) "PA6/SPI1_MISO/TIM8_BKIN/ADC12_IN6/TIM3_CH1/TIM1_BKIN", 23 PA7/SPI1_MOSI/ADC12_IN7/TIM3_CH2 (io) "PA7/SPI1_MOSI/TIM8_CH1N/ADC12_IN7/TIM3_CH2/TIM1_CH1N", 24 PC4/ADC12_IN14 (io), 25 PC5/ADC12_IN15 (io), 26 PB0/ADC12_IN8/TIM3_CH3 (io) "PB0/ADC12_IN8/TIM3_CH3/TIM8_CH2N/TIM1_CH2N", 27 PB1/ADC12_IN9/TIM3_CH4 (io) "PB1/ADC12_IN9/TIM3_CH4/TIM8_CH3N/TIM1_CH3N", 28 PB2/BOOT1 (io), 29 PB10/I2C2_SCL/USART3_TX (io) "PB10/I2C2_SCL/USART3_TX/TIM2_CH3", 30 PB11/I2C2_SDA/USART3_RX (io) "PB11/I2C2_SDA/USART3_RX/TIM2_CH4", 31 VSS_1 (power), 32 VDD_1 (power), 33 PB12/SPI2_NSS/I2C2_SMBAl/USART3_CK/TIM1_BKIN (io) "PB12/SPI2_NSS/I2S2_WS/I2C2_SMBA/USART3_CK/TIM1_BKIN", 34 PB13/SPI2_SCK/USART3_CTS/TIM1_CH1N (io) "PB13/SPI2_SCK/I2S2_CK/USART3_CTS/TIM1_CH1N", 35 PB14/SPI2_MISO/USART3_RTS/TIM1_CH2N (io) "PB14/SPI2_MISO/TIM1_CH2N/USART3_RTS", 36 PB15/SPI2_MOSI/TIM1_CH3N (io) "PB15/SPI2_MOSI/I2S2_SD/TIM1_CH3N", 37 PC6/TIM3_CH1 (io) "PC6/I2S2_MCK/TIM8_CH1/SDIO_D6/TIM3_CH1", 38 PC7/TIM3_CH2 (io) "PC7/I2S3_MCK/TIM8_CH2/SDIO_D7/TIM3_CH2", 39 PC8/TIM3_CH3 (io) "PC8/TIM8_CH3/SDIO_D0/TIM3_CH3", 40 PC9/TIM3_CH4 (io) "PC9/TIM8_CH4/SDIO_D1/TIM3_CH4", 41 PA8/USART1_CK/TIM1_CH1/MCO (io), 42 PA9/USART1_TX/TIM1_CH2 (io), 43 PA10/USART1_RX/TIM1_CH3 (io), 44 PA11/USART1_CTS/CANRX/USBDM/TIM1_CH4 (io) "PA11/USART1_CTS/USBDM/CAN_RX/TIM1_CH4", 45 PA12/USART1_RTS/CANTX/USBDP/TIM1_ETR (io) "PA12/USART1_RTS/USBDP/CAN_TX/TIM1_ETR", 46 PA13/JTMS/SWDIO (io) "PA13/JTMS-SWDIO", 47 VSS_2 (power), 48 VDD_2 (power), 49 PA14/JTCK/SWCLK (io) "PA14/JTCK-SWCLK", 50 PA15/JTDI/TIM2_CH1_ETR/SPI1_NSS (io) "PA15/JTDI/SPI3_NSS/I2S3_WS/TIM2_CH1_ETR/SPI1_NSS", 51 PC10/USART3_TX (io) "PC10/UART4_TX/SDIO_D2/USART3_TX", 52 PC11/USART3_RX (io) "PC11/UART4_RX/SDIO_D3/USART3_RX", 53 PC12/USART3_CK (io) "PC12/UART5_TX/SDIO_CK/USART3_CK", 54 PD2/TIM3_ETR (io) "PD2/TIM3_ETR/UART5_RX/SDIO_CMD", 55 PB3/JTDO/TIM2_CH2/TRACESWO/SPI1_SCK (io) "PB3/JTDO/SPI3_SCK/I2S3_CK/TRACESWO/TIM2_CH2/SPI1_SCK", 56 PB4/JNTRST/TIM3_CH1/SPI1_MISO (io) "PB4/NJTRST/SPI3_MISO/TIM3_CH1/SPI1_MISO", 57 PB5/I2C1_SMBAl/TIM3_CH2/SPI1_MOSI (io) "PB5/I2C1_SMBA/SPI3_MOSI/I2S3_SD/TIM3_CH2/SPI1_MOSI", 58 PB6/I2C1_SCL/TIM4_CH1/USART1_TX (io), 59 PB7/I2C1_SDA/TIM4_CH2/USART1_RX (io), 60 BOOT0 (in), 61 PB8/TIM4_CH3/I2C1_SCL/CANRX (io) "PB8/TIM4_CH3/SDIO_D4/I2C1_SCL/CAN_RX", 62 PB9/TIM4_CH4/I2C1_SDA/CANTX (io) "PB9/TIM4_CH4/SDIO_D5/I2C1_SDA/CAN_TX", 63 VSS_3 (power), 64 VDD_3 (power)
text: STM32F103

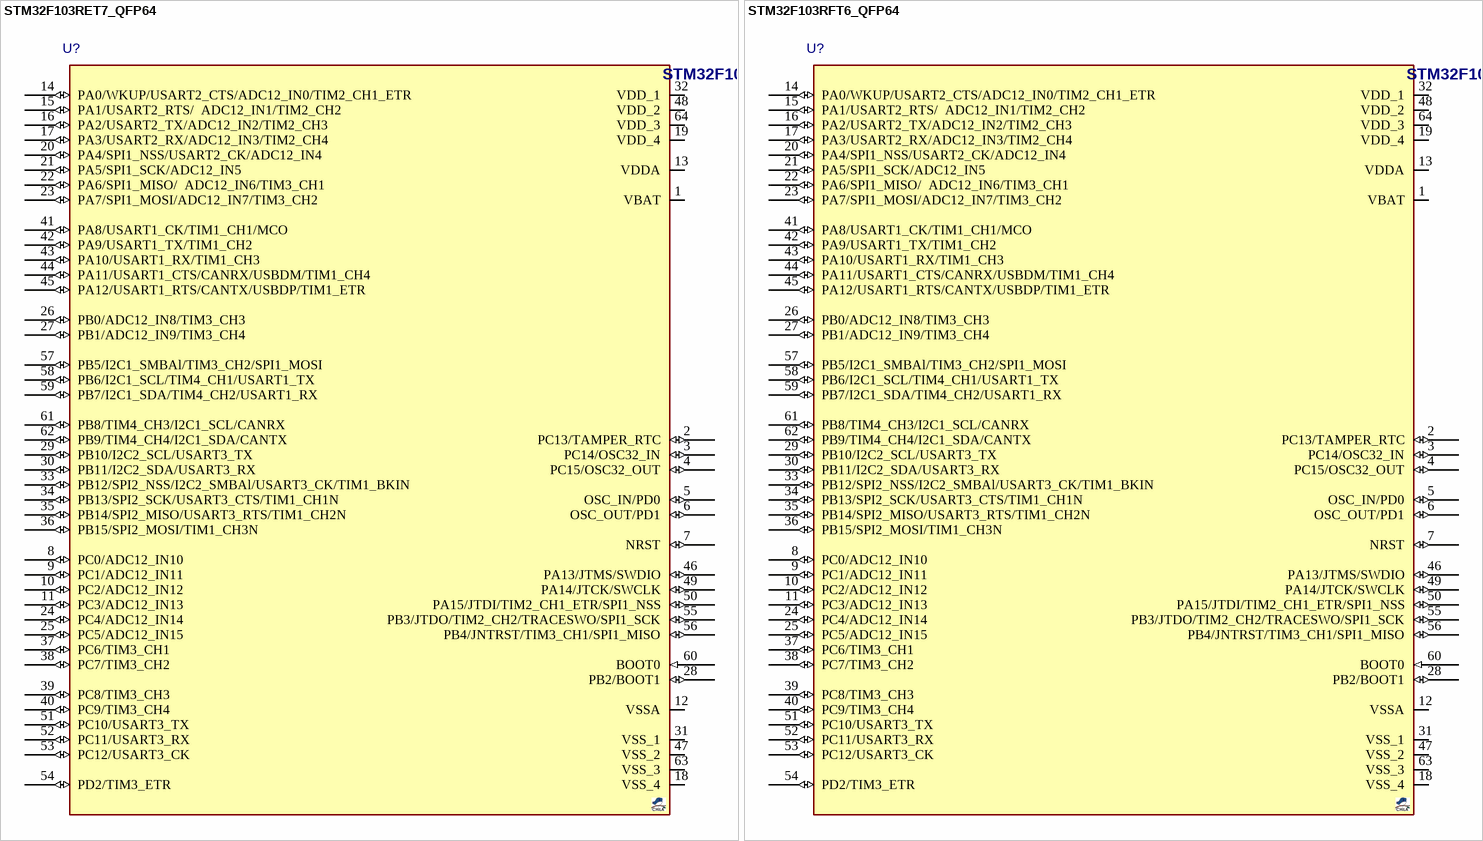
[diagram p10: symbols STM32F103RET7_QFP64 to STM32F103RFT6_QFP64]

## STM32F103RET7_QFP64
designator U?, comment STM32F103RET7  (value not drawn)
MCU, STM32 ARM 32-bit, Cortex M3, 512KB FLASH, 64KB SRAM; DESC: USB, CAN, I2C, SPI, UART; MANF: ST; PARAM2: 2~3.6VCC, 72MHz, 2X12Bit ADC; PARAM: 512KB FLASH, 64KB SRAM, -40~105oC; MANF_P#: STM32F103RET7; PRICE: 8.7$; VALUE: STM32F103RET7; PACKAGE: QFP-64
footprint QFG50_64 (A64 (CYPRESS), TQFP64, LQFP64, VQ44, VQG44, 10X10mm, Pitch: 0.5mm)
pins: 1 VBAT (power), 2 PC13/TAMPER_RTC (io) "PC13-TAMPER-RTC/PC13/TAMPER-RTC", 3 PC14/OSC32_IN (io) "PC14-OSC32_IN/PC14/OSC32_IN", 4 PC15/OSC32_OUT (io) "PC15-OSC32_OUT/PC15/OSC32_OUT", 5 OSC_IN/PD0 (io) "PD0/OSC_IN/CAN_RX", 6 OSC_OUT/PD1 (io) "PD1/OSC_OUT/CAN_TX", 7 NRST (io), 8 PC0/ADC12_IN10 (io) "PC0/ADC123_IN10", 9 PC1/ADC12_IN11 (io) "PC1/ADC123_IN11", 10 PC2/ADC12_IN12 (io) "PC2/ADC123_IN12", 11 PC3/ADC12_IN13 (io) "PC3/ADC123_IN13", 12 VSSA (power), 13 VDDA (power), 14 PA0/WKUP/USART2_CTS/ADC12_IN0/TIM2_CH1_ETR (io) "PA0-WKUP/PA0/WKUP/USART2_CTS/ADC123_IN0/TIM2_CH1_ETR/TIM5_CH1/TIM8_ETR", 15 PA1/USART2_RTS/  ADC12_IN1/TIM2_CH2 (io) "PA1/USART2_RTS/ADC123_IN1/TIM5_CH2/TIM2_CH2", 16 PA2/USART2_TX/ADC12_IN2/TIM2_CH3 (io) "PA2/USART2_TX/TIM5_CH3/ADC123_IN2/TIM2_CH3", 17 PA3/USART2_RX/ADC12_IN3/TIM2_CH4 (io) "PA3/USART2_RX/TIM5_CH4/ADC123_IN3/TIM2_CH4", 18 VSS_4 (power), 19 VDD_4 (power), 20 PA4/SPI1_NSS/USART2_CK/ADC12_IN4 (io) "PA4/SPI1_NSS/USART2_CK/DAC_OUT1/ADC12_IN4", 21 PA5/SPI1_SCK/ADC12_IN5 (io) "PA5/SPI1_SCK/DAC_OUT2/ADC12_IN5", 22 PA6/SPI1_MISO/  ADC12_IN6/TIM3_CH1 (io) "PA6/SPI1_MISO/TIM8_BKIN/ADC12_IN6/TIM3_CH1/TIM1_BKIN", 23 PA7/SPI1_MOSI/ADC12_IN7/TIM3_CH2 (io) "PA7/SPI1_MOSI/TIM8_CH1N/ADC12_IN7/TIM3_CH2/TIM1_CH1N", 24 PC4/ADC12_IN14 (io), 25 PC5/ADC12_IN15 (io), 26 PB0/ADC12_IN8/TIM3_CH3 (io) "PB0/ADC12_IN8/TIM3_CH3/TIM8_CH2N/TIM1_CH2N", 27 PB1/ADC12_IN9/TIM3_CH4 (io) "PB1/ADC12_IN9/TIM3_CH4/TIM8_CH3N/TIM1_CH3N", 28 PB2/BOOT1 (io), 29 PB10/I2C2_SCL/USART3_TX (io) "PB10/I2C2_SCL/USART3_TX/TIM2_CH3", 30 PB11/I2C2_SDA/USART3_RX (io) "PB11/I2C2_SDA/USART3_RX/TIM2_CH4", 31 VSS_1 (power), 32 VDD_1 (power), 33 PB12/SPI2_NSS/I2C2_SMBAl/USART3_CK/TIM1_BKIN (io) "PB12/SPI2_NSS/I2S2_WS/I2C2_SMBA/USART3_CK/TIM1_BKIN", 34 PB13/SPI2_SCK/USART3_CTS/TIM1_CH1N (io) "PB13/SPI2_SCK/I2S2_CK/USART3_CTS/TIM1_CH1N", 35 PB14/SPI2_MISO/USART3_RTS/TIM1_CH2N (io) "PB14/SPI2_MISO/TIM1_CH2N/USART3_RTS", 36 PB15/SPI2_MOSI/TIM1_CH3N (io) "PB15/SPI2_MOSI/I2S2_SD/TIM1_CH3N", 37 PC6/TIM3_CH1 (io) "PC6/I2S2_MCK/TIM8_CH1/SDIO_D6/TIM3_CH1", 38 PC7/TIM3_CH2 (io) "PC7/I2S3_MCK/TIM8_CH2/SDIO_D7/TIM3_CH2", 39 PC8/TIM3_CH3 (io) "PC8/TIM8_CH3/SDIO_D0/TIM3_CH3", 40 PC9/TIM3_CH4 (io) "PC9/TIM8_CH4/SDIO_D1/TIM3_CH4", 41 PA8/USART1_CK/TIM1_CH1/MCO (io), 42 PA9/USART1_TX/TIM1_CH2 (io), 43 PA10/USART1_RX/TIM1_CH3 (io), 44 PA11/USART1_CTS/CANRX/USBDM/TIM1_CH4 (io) "PA11/USART1_CTS/USBDM/CAN_RX/TIM1_CH4", 45 PA12/USART1_RTS/CANTX/USBDP/TIM1_ETR (io) "PA12/USART1_RTS/USBDP/CAN_TX/TIM1_ETR", 46 PA13/JTMS/SWDIO (io) "PA13/JTMS-SWDIO", 47 VSS_2 (power), 48 VDD_2 (power), 49 PA14/JTCK/SWCLK (io) "PA14/JTCK-SWCLK", 50 PA15/JTDI/TIM2_CH1_ETR/SPI1_NSS (io) "PA15/JTDI/SPI3_NSS/I2S3_WS/TIM2_CH1_ETR/SPI1_NSS", 51 PC10/USART3_TX (io) "PC10/UART4_TX/SDIO_D2/USART3_TX", 52 PC11/USART3_RX (io) "PC11/UART4_RX/SDIO_D3/USART3_RX", 53 PC12/USART3_CK (io) "PC12/UART5_TX/SDIO_CK/USART3_CK", 54 PD2/TIM3_ETR (io) "PD2/TIM3_ETR/UART5_RX/SDIO_CMD", 55 PB3/JTDO/TIM2_CH2/TRACESWO/SPI1_SCK (io) "PB3/JTDO/SPI3_SCK/I2S3_CK/TRACESWO/TIM2_CH2/SPI1_SCK", 56 PB4/JNTRST/TIM3_CH1/SPI1_MISO (io) "PB4/NJTRST/SPI3_MISO/TIM3_CH1/SPI1_MISO", 57 PB5/I2C1_SMBAl/TIM3_CH2/SPI1_MOSI (io) "PB5/I2C1_SMBA/SPI3_MOSI/I2S3_SD/TIM3_CH2/SPI1_MOSI", 58 PB6/I2C1_SCL/TIM4_CH1/USART1_TX (io), 59 PB7/I2C1_SDA/TIM4_CH2/USART1_RX (io), 60 BOOT0 (in), 61 PB8/TIM4_CH3/I2C1_SCL/CANRX (io) "PB8/TIM4_CH3/SDIO_D4/I2C1_SCL/CAN_RX", 62 PB9/TIM4_CH4/I2C1_SDA/CANTX (io) "PB9/TIM4_CH4/SDIO_D5/I2C1_SDA/CAN_TX", 63 VSS_3 (power), 64 VDD_3 (power)
text: STM32F103

## STM32F103RFT6_QFP64
designator U?, comment STM32F103RFT6  (value not drawn)
MCU, STM32 ARM 32-bit, Cortex M3, 768KB FLASH, 80KB SRAM; DESC: USB, CAN, I2C, SPI, UART; MANF: ST; PARAM2: 2~3.6VCC, 72MHz, 2X12Bit ADC; PARAM: 768KB FLASH, 80KB SRAM, -40~85oC; MANF_P#: STM32F103RFT6; PRICE: 11$; VALUE: STM32F103RFT6; PACKAGE: QFP-64
footprint QFG50_64 (A64 (CYPRESS), TQFP64, LQFP64, VQ44, VQG44, 10X10mm, Pitch: 0.5mm)
pins: 1 VBAT (power), 2 PC13/TAMPER_RTC (io) "PC13-TAMPER-RTC/PC13/TAMPER-RTC", 3 PC14/OSC32_IN (io) "PC14-OSC32_IN/PC14/OSC32_IN", 4 PC15/OSC32_OUT (io) "PC15-OSC32_OUT/PC15/OSC32_OUT", 5 OSC_IN/PD0 (io) "PD0/OSC_IN/CAN_RX", 6 OSC_OUT/PD1 (io) "PD1/OSC_OUT/CAN_TX", 7 NRST (io), 8 PC0/ADC12_IN10 (io) "PC0/ADC123_IN10", 9 PC1/ADC12_IN11 (io) "PC1/ADC123_IN11", 10 PC2/ADC12_IN12 (io) "PC2/ADC123_IN12", 11 PC3/ADC12_IN13 (io) "PC3/ADC123_IN13", 12 VSSA (power), 13 VDDA (power), 14 PA0/WKUP/USART2_CTS/ADC12_IN0/TIM2_CH1_ETR (io) "PA0-WKUP/PA0/WKUP/USART2_CTS/ADC123_IN0/TIM2_CH1_ETR/TIM5_CH1/TIM8_ETR", 15 PA1/USART2_RTS/  ADC12_IN1/TIM2_CH2 (io) "PA1/USART2_RTS/ADC123_IN1/TIM5_CH2/TIM2_CH2", 16 PA2/USART2_TX/ADC12_IN2/TIM2_CH3 (io) "PA2/USART2_TX/TIM5_CH3/ADC123_IN2/TIM2_CH3", 17 PA3/USART2_RX/ADC12_IN3/TIM2_CH4 (io) "PA3/USART2_RX/TIM5_CH4/ADC123_IN3/TIM2_CH4", 18 VSS_4 (power), 19 VDD_4 (power), 20 PA4/SPI1_NSS/USART2_CK/ADC12_IN4 (io) "PA4/SPI1_NSS/USART2_CK/DAC_OUT1/ADC12_IN4", 21 PA5/SPI1_SCK/ADC12_IN5 (io) "PA5/SPI1_SCK/DAC_OUT2/ADC12_IN5", 22 PA6/SPI1_MISO/  ADC12_IN6/TIM3_CH1 (io) "PA6/SPI1_MISO/TIM8_BKIN/ADC12_IN6/TIM3_CH1/TIM1_BKIN", 23 PA7/SPI1_MOSI/ADC12_IN7/TIM3_CH2 (io) "PA7/SPI1_MOSI/TIM8_CH1N/ADC12_IN7/TIM3_CH2/TIM1_CH1N", 24 PC4/ADC12_IN14 (io), 25 PC5/ADC12_IN15 (io), 26 PB0/ADC12_IN8/TIM3_CH3 (io) "PB0/ADC12_IN8/TIM3_CH3/TIM8_CH2N/TIM1_CH2N", 27 PB1/ADC12_IN9/TIM3_CH4 (io) "PB1/ADC12_IN9/TIM3_CH4/TIM8_CH3N/TIM1_CH3N", 28 PB2/BOOT1 (io), 29 PB10/I2C2_SCL/USART3_TX (io) "PB10/I2C2_SCL/USART3_TX/TIM2_CH3", 30 PB11/I2C2_SDA/USART3_RX (io) "PB11/I2C2_SDA/USART3_RX/TIM2_CH4", 31 VSS_1 (power), 32 VDD_1 (power), 33 PB12/SPI2_NSS/I2C2_SMBAl/USART3_CK/TIM1_BKIN (io) "PB12/SPI2_NSS/I2S2_WS/I2C2_SMBA/USART3_CK/TIM1_BKIN", 34 PB13/SPI2_SCK/USART3_CTS/TIM1_CH1N (io) "PB13/SPI2_SCK/I2S2_CK/USART3_CTS/TIM1_CH1N", 35 PB14/SPI2_MISO/USART3_RTS/TIM1_CH2N (io) "PB14/SPI2_MISO/TIM1_CH2N/USART3_RTS", 36 PB15/SPI2_MOSI/TIM1_CH3N (io) "PB15/SPI2_MOSI/I2S2_SD/TIM1_CH3N", 37 PC6/TIM3_CH1 (io) "PC6/I2S2_MCK/TIM8_CH1/SDIO_D6/TIM3_CH1", 38 PC7/TIM3_CH2 (io) "PC7/I2S3_MCK/TIM8_CH2/SDIO_D7/TIM3_CH2", 39 PC8/TIM3_CH3 (io) "PC8/TIM8_CH3/SDIO_D0/TIM3_CH3", 40 PC9/TIM3_CH4 (io) "PC9/TIM8_CH4/SDIO_D1/TIM3_CH4", 41 PA8/USART1_CK/TIM1_CH1/MCO (io), 42 PA9/USART1_TX/TIM1_CH2 (io), 43 PA10/USART1_RX/TIM1_CH3 (io), 44 PA11/USART1_CTS/CANRX/USBDM/TIM1_CH4 (io) "PA11/USART1_CTS/USBDM/CAN_RX/TIM1_CH4", 45 PA12/USART1_RTS/CANTX/USBDP/TIM1_ETR (io) "PA12/USART1_RTS/USBDP/CAN_TX/TIM1_ETR", 46 PA13/JTMS/SWDIO (io) "PA13/JTMS-SWDIO", 47 VSS_2 (power), 48 VDD_2 (power), 49 PA14/JTCK/SWCLK (io) "PA14/JTCK-SWCLK", 50 PA15/JTDI/TIM2_CH1_ETR/SPI1_NSS (io) "PA15/JTDI/SPI3_NSS/I2S3_WS/TIM2_CH1_ETR/SPI1_NSS", 51 PC10/USART3_TX (io) "PC10/UART4_TX/SDIO_D2/USART3_TX", 52 PC11/USART3_RX (io) "PC11/UART4_RX/SDIO_D3/USART3_RX", 53 PC12/USART3_CK (io) "PC12/UART5_TX/SDIO_CK/USART3_CK", 54 PD2/TIM3_ETR (io) "PD2/TIM3_ETR/UART5_RX/SDIO_CMD", 55 PB3/JTDO/TIM2_CH2/TRACESWO/SPI1_SCK (io) "PB3/JTDO/SPI3_SCK/I2S3_CK/TRACESWO/TIM2_CH2/SPI1_SCK", 56 PB4/JNTRST/TIM3_CH1/SPI1_MISO (io) "PB4/NJTRST/SPI3_MISO/TIM3_CH1/SPI1_MISO", 57 PB5/I2C1_SMBAl/TIM3_CH2/SPI1_MOSI (io) "PB5/I2C1_SMBA/SPI3_MOSI/I2S3_SD/TIM3_CH2/SPI1_MOSI", 58 PB6/I2C1_SCL/TIM4_CH1/USART1_TX (io), 59 PB7/I2C1_SDA/TIM4_CH2/USART1_RX (io), 60 BOOT0 (in), 61 PB8/TIM4_CH3/I2C1_SCL/CANRX (io) "PB8/TIM4_CH3/SDIO_D4/I2C1_SCL/CAN_RX", 62 PB9/TIM4_CH4/I2C1_SDA/CANTX (io) "PB9/TIM4_CH4/SDIO_D5/I2C1_SDA/CAN_TX", 63 VSS_3 (power), 64 VDD_3 (power)
text: STM32F103

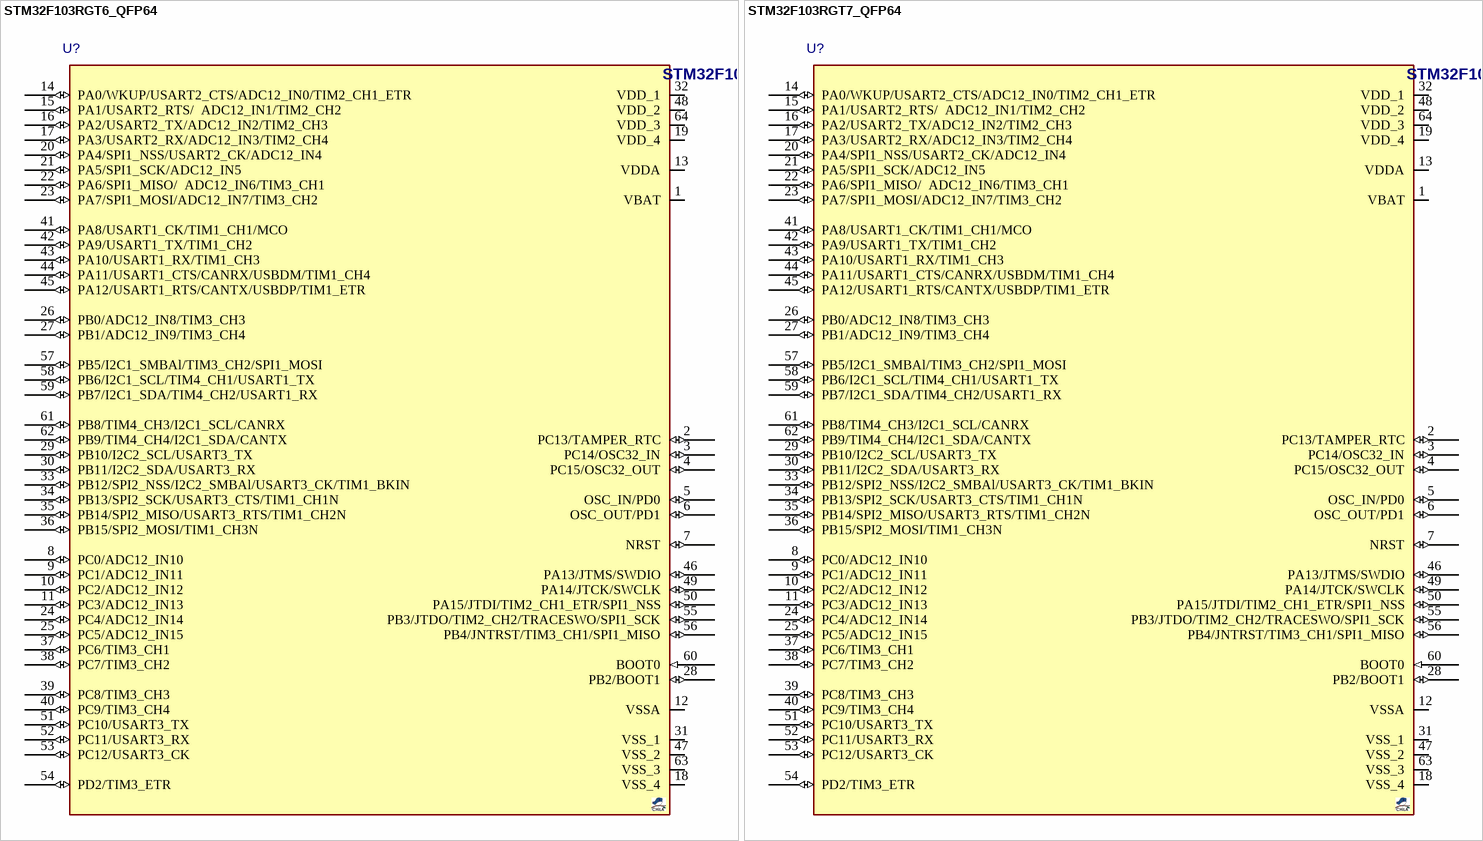
[diagram p11: symbols STM32F103RGT6_QFP64 to STM32F103RGT7_QFP64]

## STM32F103RGT6_QFP64
designator U?, comment STM32F103RGT6  (value not drawn)
MCU, STM32 ARM 32-bit, Cortex M3, 1MB FLASH, 96KB SRAM; DESC: USB, CAN, I2C, SPI, UART; MANF: ST; PARAM2: 2~3.6VCC, 72MHz, 2X12Bit ADC; PARAM: 1MB FLASH, 96KB SRAM, -40~85oC; MANF_P#: STM32F103RGT6; PRICE: 11$; VALUE: STM32F103RGT6; PACKAGE: QFP-64
footprint QFG50_64 (A64 (CYPRESS), TQFP64, LQFP64, VQ44, VQG44, 10X10mm, Pitch: 0.5mm)
pins: 1 VBAT (power), 2 PC13/TAMPER_RTC (io) "PC13-TAMPER-RTC/PC13/TAMPER-RTC", 3 PC14/OSC32_IN (io) "PC14-OSC32_IN/PC14/OSC32_IN", 4 PC15/OSC32_OUT (io) "PC15-OSC32_OUT/PC15/OSC32_OUT", 5 OSC_IN/PD0 (io) "PD0/OSC_IN/CAN_RX", 6 OSC_OUT/PD1 (io) "PD1/OSC_OUT/CAN_TX", 7 NRST (io), 8 PC0/ADC12_IN10 (io) "PC0/ADC123_IN10", 9 PC1/ADC12_IN11 (io) "PC1/ADC123_IN11", 10 PC2/ADC12_IN12 (io) "PC2/ADC123_IN12", 11 PC3/ADC12_IN13 (io) "PC3/ADC123_IN13", 12 VSSA (power), 13 VDDA (power), 14 PA0/WKUP/USART2_CTS/ADC12_IN0/TIM2_CH1_ETR (io) "PA0-WKUP/PA0/WKUP/USART2_CTS/ADC123_IN0/TIM2_CH1_ETR/TIM5_CH1/TIM8_ETR", 15 PA1/USART2_RTS/  ADC12_IN1/TIM2_CH2 (io) "PA1/USART2_RTS/ADC123_IN1/TIM5_CH2/TIM2_CH2", 16 PA2/USART2_TX/ADC12_IN2/TIM2_CH3 (io) "PA2/USART2_TX/TIM5_CH3/ADC123_IN2/TIM2_CH3", 17 PA3/USART2_RX/ADC12_IN3/TIM2_CH4 (io) "PA3/USART2_RX/TIM5_CH4/ADC123_IN3/TIM2_CH4", 18 VSS_4 (power), 19 VDD_4 (power), 20 PA4/SPI1_NSS/USART2_CK/ADC12_IN4 (io) "PA4/SPI1_NSS/USART2_CK/DAC_OUT1/ADC12_IN4", 21 PA5/SPI1_SCK/ADC12_IN5 (io) "PA5/SPI1_SCK/DAC_OUT2/ADC12_IN5", 22 PA6/SPI1_MISO/  ADC12_IN6/TIM3_CH1 (io) "PA6/SPI1_MISO/TIM8_BKIN/ADC12_IN6/TIM3_CH1/TIM1_BKIN", 23 PA7/SPI1_MOSI/ADC12_IN7/TIM3_CH2 (io) "PA7/SPI1_MOSI/TIM8_CH1N/ADC12_IN7/TIM3_CH2/TIM1_CH1N", 24 PC4/ADC12_IN14 (io), 25 PC5/ADC12_IN15 (io), 26 PB0/ADC12_IN8/TIM3_CH3 (io) "PB0/ADC12_IN8/TIM3_CH3/TIM8_CH2N/TIM1_CH2N", 27 PB1/ADC12_IN9/TIM3_CH4 (io) "PB1/ADC12_IN9/TIM3_CH4/TIM8_CH3N/TIM1_CH3N", 28 PB2/BOOT1 (io), 29 PB10/I2C2_SCL/USART3_TX (io) "PB10/I2C2_SCL/USART3_TX/TIM2_CH3", 30 PB11/I2C2_SDA/USART3_RX (io) "PB11/I2C2_SDA/USART3_RX/TIM2_CH4", 31 VSS_1 (power), 32 VDD_1 (power), 33 PB12/SPI2_NSS/I2C2_SMBAl/USART3_CK/TIM1_BKIN (io) "PB12/SPI2_NSS/I2S2_WS/I2C2_SMBA/USART3_CK/TIM1_BKIN", 34 PB13/SPI2_SCK/USART3_CTS/TIM1_CH1N (io) "PB13/SPI2_SCK/I2S2_CK/USART3_CTS/TIM1_CH1N", 35 PB14/SPI2_MISO/USART3_RTS/TIM1_CH2N (io) "PB14/SPI2_MISO/TIM1_CH2N/USART3_RTS", 36 PB15/SPI2_MOSI/TIM1_CH3N (io) "PB15/SPI2_MOSI/I2S2_SD/TIM1_CH3N", 37 PC6/TIM3_CH1 (io) "PC6/I2S2_MCK/TIM8_CH1/SDIO_D6/TIM3_CH1", 38 PC7/TIM3_CH2 (io) "PC7/I2S3_MCK/TIM8_CH2/SDIO_D7/TIM3_CH2", 39 PC8/TIM3_CH3 (io) "PC8/TIM8_CH3/SDIO_D0/TIM3_CH3", 40 PC9/TIM3_CH4 (io) "PC9/TIM8_CH4/SDIO_D1/TIM3_CH4", 41 PA8/USART1_CK/TIM1_CH1/MCO (io), 42 PA9/USART1_TX/TIM1_CH2 (io), 43 PA10/USART1_RX/TIM1_CH3 (io), 44 PA11/USART1_CTS/CANRX/USBDM/TIM1_CH4 (io) "PA11/USART1_CTS/USBDM/CAN_RX/TIM1_CH4", 45 PA12/USART1_RTS/CANTX/USBDP/TIM1_ETR (io) "PA12/USART1_RTS/USBDP/CAN_TX/TIM1_ETR", 46 PA13/JTMS/SWDIO (io) "PA13/JTMS-SWDIO", 47 VSS_2 (power), 48 VDD_2 (power), 49 PA14/JTCK/SWCLK (io) "PA14/JTCK-SWCLK", 50 PA15/JTDI/TIM2_CH1_ETR/SPI1_NSS (io) "PA15/JTDI/SPI3_NSS/I2S3_WS/TIM2_CH1_ETR/SPI1_NSS", 51 PC10/USART3_TX (io) "PC10/UART4_TX/SDIO_D2/USART3_TX", 52 PC11/USART3_RX (io) "PC11/UART4_RX/SDIO_D3/USART3_RX", 53 PC12/USART3_CK (io) "PC12/UART5_TX/SDIO_CK/USART3_CK", 54 PD2/TIM3_ETR (io) "PD2/TIM3_ETR/UART5_RX/SDIO_CMD", 55 PB3/JTDO/TIM2_CH2/TRACESWO/SPI1_SCK (io) "PB3/JTDO/SPI3_SCK/I2S3_CK/TRACESWO/TIM2_CH2/SPI1_SCK", 56 PB4/JNTRST/TIM3_CH1/SPI1_MISO (io) "PB4/NJTRST/SPI3_MISO/TIM3_CH1/SPI1_MISO", 57 PB5/I2C1_SMBAl/TIM3_CH2/SPI1_MOSI (io) "PB5/I2C1_SMBA/SPI3_MOSI/I2S3_SD/TIM3_CH2/SPI1_MOSI", 58 PB6/I2C1_SCL/TIM4_CH1/USART1_TX (io), 59 PB7/I2C1_SDA/TIM4_CH2/USART1_RX (io), 60 BOOT0 (in), 61 PB8/TIM4_CH3/I2C1_SCL/CANRX (io) "PB8/TIM4_CH3/SDIO_D4/I2C1_SCL/CAN_RX", 62 PB9/TIM4_CH4/I2C1_SDA/CANTX (io) "PB9/TIM4_CH4/SDIO_D5/I2C1_SDA/CAN_TX", 63 VSS_3 (power), 64 VDD_3 (power)
text: STM32F103

## STM32F103RGT7_QFP64
designator U?, comment STM32F103RGT7  (value not drawn)
MCU, STM32 ARM 32-bit, Cortex M3, 1MB FLASH, 96KB SRAM; DESC: USB, CAN, I2C, SPI, UART; MANF: ST; PARAM2: 2~3.6VCC, 72MHz, 2X12Bit ADC; PARAM: 1MB FLASH, 96KB SRAM, -40~105oC; MANF_P#: STM32F103RGT7; PRICE: 13$; VALUE: STM32F103RGT7; PACKAGE: QFP-64
footprint QFG50_64 (A64 (CYPRESS), TQFP64, LQFP64, VQ44, VQG44, 10X10mm, Pitch: 0.5mm)
pins: 1 VBAT (power), 2 PC13/TAMPER_RTC (io) "PC13-TAMPER-RTC/PC13/TAMPER-RTC", 3 PC14/OSC32_IN (io) "PC14-OSC32_IN/PC14/OSC32_IN", 4 PC15/OSC32_OUT (io) "PC15-OSC32_OUT/PC15/OSC32_OUT", 5 OSC_IN/PD0 (io) "PD0/OSC_IN/CAN_RX", 6 OSC_OUT/PD1 (io) "PD1/OSC_OUT/CAN_TX", 7 NRST (io), 8 PC0/ADC12_IN10 (io) "PC0/ADC123_IN10", 9 PC1/ADC12_IN11 (io) "PC1/ADC123_IN11", 10 PC2/ADC12_IN12 (io) "PC2/ADC123_IN12", 11 PC3/ADC12_IN13 (io) "PC3/ADC123_IN13", 12 VSSA (power), 13 VDDA (power), 14 PA0/WKUP/USART2_CTS/ADC12_IN0/TIM2_CH1_ETR (io) "PA0-WKUP/PA0/WKUP/USART2_CTS/ADC123_IN0/TIM2_CH1_ETR/TIM5_CH1/TIM8_ETR", 15 PA1/USART2_RTS/  ADC12_IN1/TIM2_CH2 (io) "PA1/USART2_RTS/ADC123_IN1/TIM5_CH2/TIM2_CH2", 16 PA2/USART2_TX/ADC12_IN2/TIM2_CH3 (io) "PA2/USART2_TX/TIM5_CH3/ADC123_IN2/TIM2_CH3", 17 PA3/USART2_RX/ADC12_IN3/TIM2_CH4 (io) "PA3/USART2_RX/TIM5_CH4/ADC123_IN3/TIM2_CH4", 18 VSS_4 (power), 19 VDD_4 (power), 20 PA4/SPI1_NSS/USART2_CK/ADC12_IN4 (io) "PA4/SPI1_NSS/USART2_CK/DAC_OUT1/ADC12_IN4", 21 PA5/SPI1_SCK/ADC12_IN5 (io) "PA5/SPI1_SCK/DAC_OUT2/ADC12_IN5", 22 PA6/SPI1_MISO/  ADC12_IN6/TIM3_CH1 (io) "PA6/SPI1_MISO/TIM8_BKIN/ADC12_IN6/TIM3_CH1/TIM1_BKIN", 23 PA7/SPI1_MOSI/ADC12_IN7/TIM3_CH2 (io) "PA7/SPI1_MOSI/TIM8_CH1N/ADC12_IN7/TIM3_CH2/TIM1_CH1N", 24 PC4/ADC12_IN14 (io), 25 PC5/ADC12_IN15 (io), 26 PB0/ADC12_IN8/TIM3_CH3 (io) "PB0/ADC12_IN8/TIM3_CH3/TIM8_CH2N/TIM1_CH2N", 27 PB1/ADC12_IN9/TIM3_CH4 (io) "PB1/ADC12_IN9/TIM3_CH4/TIM8_CH3N/TIM1_CH3N", 28 PB2/BOOT1 (io), 29 PB10/I2C2_SCL/USART3_TX (io) "PB10/I2C2_SCL/USART3_TX/TIM2_CH3", 30 PB11/I2C2_SDA/USART3_RX (io) "PB11/I2C2_SDA/USART3_RX/TIM2_CH4", 31 VSS_1 (power), 32 VDD_1 (power), 33 PB12/SPI2_NSS/I2C2_SMBAl/USART3_CK/TIM1_BKIN (io) "PB12/SPI2_NSS/I2S2_WS/I2C2_SMBA/USART3_CK/TIM1_BKIN", 34 PB13/SPI2_SCK/USART3_CTS/TIM1_CH1N (io) "PB13/SPI2_SCK/I2S2_CK/USART3_CTS/TIM1_CH1N", 35 PB14/SPI2_MISO/USART3_RTS/TIM1_CH2N (io) "PB14/SPI2_MISO/TIM1_CH2N/USART3_RTS", 36 PB15/SPI2_MOSI/TIM1_CH3N (io) "PB15/SPI2_MOSI/I2S2_SD/TIM1_CH3N", 37 PC6/TIM3_CH1 (io) "PC6/I2S2_MCK/TIM8_CH1/SDIO_D6/TIM3_CH1", 38 PC7/TIM3_CH2 (io) "PC7/I2S3_MCK/TIM8_CH2/SDIO_D7/TIM3_CH2", 39 PC8/TIM3_CH3 (io) "PC8/TIM8_CH3/SDIO_D0/TIM3_CH3", 40 PC9/TIM3_CH4 (io) "PC9/TIM8_CH4/SDIO_D1/TIM3_CH4", 41 PA8/USART1_CK/TIM1_CH1/MCO (io), 42 PA9/USART1_TX/TIM1_CH2 (io), 43 PA10/USART1_RX/TIM1_CH3 (io), 44 PA11/USART1_CTS/CANRX/USBDM/TIM1_CH4 (io) "PA11/USART1_CTS/USBDM/CAN_RX/TIM1_CH4", 45 PA12/USART1_RTS/CANTX/USBDP/TIM1_ETR (io) "PA12/USART1_RTS/USBDP/CAN_TX/TIM1_ETR", 46 PA13/JTMS/SWDIO (io) "PA13/JTMS-SWDIO", 47 VSS_2 (power), 48 VDD_2 (power), 49 PA14/JTCK/SWCLK (io) "PA14/JTCK-SWCLK", 50 PA15/JTDI/TIM2_CH1_ETR/SPI1_NSS (io) "PA15/JTDI/SPI3_NSS/I2S3_WS/TIM2_CH1_ETR/SPI1_NSS", 51 PC10/USART3_TX (io) "PC10/UART4_TX/SDIO_D2/USART3_TX", 52 PC11/USART3_RX (io) "PC11/UART4_RX/SDIO_D3/USART3_RX", 53 PC12/USART3_CK (io) "PC12/UART5_TX/SDIO_CK/USART3_CK", 54 PD2/TIM3_ETR (io) "PD2/TIM3_ETR/UART5_RX/SDIO_CMD", 55 PB3/JTDO/TIM2_CH2/TRACESWO/SPI1_SCK (io) "PB3/JTDO/SPI3_SCK/I2S3_CK/TRACESWO/TIM2_CH2/SPI1_SCK", 56 PB4/JNTRST/TIM3_CH1/SPI1_MISO (io) "PB4/NJTRST/SPI3_MISO/TIM3_CH1/SPI1_MISO", 57 PB5/I2C1_SMBAl/TIM3_CH2/SPI1_MOSI (io) "PB5/I2C1_SMBA/SPI3_MOSI/I2S3_SD/TIM3_CH2/SPI1_MOSI", 58 PB6/I2C1_SCL/TIM4_CH1/USART1_TX (io), 59 PB7/I2C1_SDA/TIM4_CH2/USART1_RX (io), 60 BOOT0 (in), 61 PB8/TIM4_CH3/I2C1_SCL/CANRX (io) "PB8/TIM4_CH3/SDIO_D4/I2C1_SCL/CAN_RX", 62 PB9/TIM4_CH4/I2C1_SDA/CANTX (io) "PB9/TIM4_CH4/SDIO_D5/I2C1_SDA/CAN_TX", 63 VSS_3 (power), 64 VDD_3 (power)
text: STM32F103

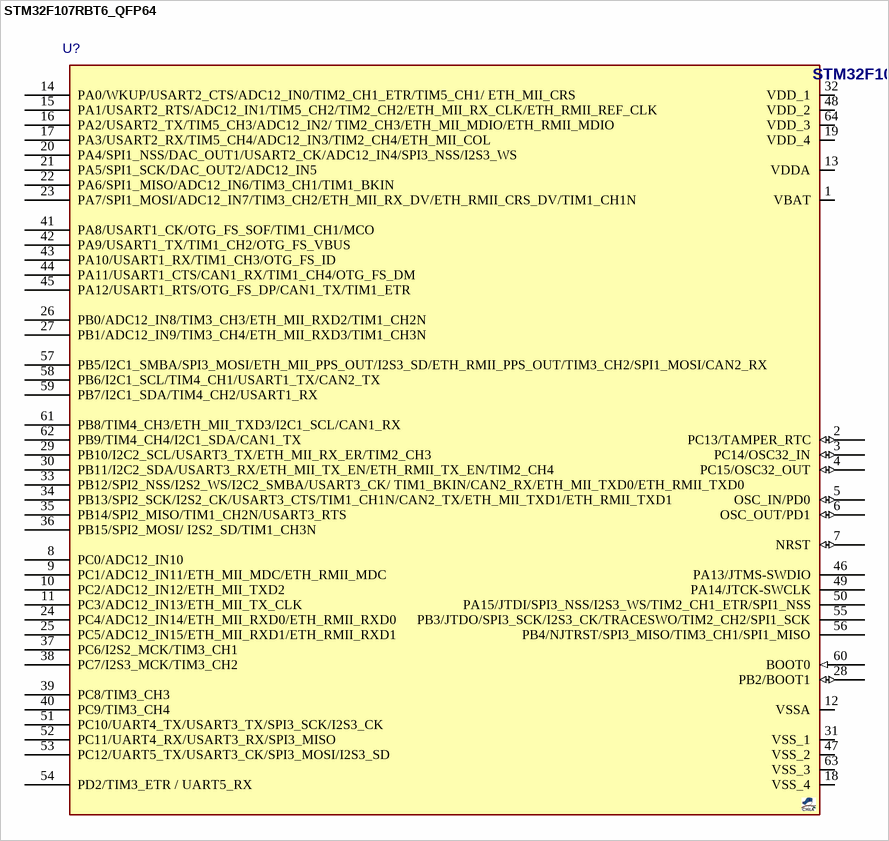
[diagram p12: symbol STM32F107RBT6_QFP64]

## STM32F107RBT6_QFP64
designator U?, comment STM32F107RBT6  (value not drawn)
MCU, STM32 ARM 32-bit, Cortex M3, 128KB FLASH, 64KB SRAM; DESC: USB OTG, ETHERNET, 2ADC, DAC, CAN, I2C, SPI, UART; MANF: ST; PARAM2: 2~3.6VCC, 72MHz, 2X12Bit ADC, 2X12Bit DAC; PARAM: 128KB FLASH, 64KB SRAM, -40~85oC; MANF_P#: STM32F107RBT6; PRICE: 4$; VALUE: STM32F107RBT6; PACKAGE: QFP-64
footprint QFG50_64 (A64 (CYPRESS), TQFP64, LQFP64, VQ44, VQG44, 10X10mm, Pitch: 0.5mm)
pins: 1 VBAT (power), 2 PC13/TAMPER_RTC (io) "PC13-TAMPER-RTC/PC13/TAMPER-RTC", 3 PC14/OSC32_IN (io) "PC14-OSC32_IN/PC14/OSC32_IN", 4 PC15/OSC32_OUT (io) "PC15-OSC32_OUT/PC15/OSC32_OUT", 5 OSC_IN/PD0 (io) "PD0/OSC_IN/CAN_RX", 6 OSC_OUT/PD1 (io) "PD1/OSC_OUT/CAN_TX", 7 NRST (io), 8 PC0/ADC12_IN10, 9 PC1/ADC12_IN11/ETH_MII_MDC/ETH_RMII_MDC, 10 PC2/ADC12_IN12/ETH_MII_TXD2, 11 PC3/ADC12_IN13/ETH_MII_TX_CLK, 12 VSSA (power), 13 VDDA (power), 14 PA0/WKUP/USART2_CTS/ADC12_IN0/TIM2_CH1_ETR/TIM5_CH1/ ETH_MII_CRS, 15 PA1/USART2_RTS/ADC12_IN1/TIM5_CH2/TIM2_CH2/ETH_MII_RX_CLK/ETH_RMII_REF_CLK, 16 PA2/USART2_TX/TIM5_CH3/ADC12_IN2/ TIM2_CH3/ETH_MII_MDIO/ETH_RMII_MDIO, 17 PA3/USART2_RX/TIM5_CH4/ADC12_IN3/TIM2_CH4/ETH_MII_COL, 18 VSS_4 (power), 19 VDD_4 (power), 20 PA4/SPI1_NSS/DAC_OUT1/USART2_CK/ADC12_IN4/SPI3_NSS/I2S3_WS, 21 PA5/SPI1_SCK/DAC_OUT2/ADC12_IN5, 22 PA6/SPI1_MISO/ADC12_IN6/TIM3_CH1/TIM1_BKIN, 23 PA7/SPI1_MOSI/ADC12_IN7/TIM3_CH2/ETH_MII_RX_DV/ETH_RMII_CRS_DV/TIM1_CH1N, 24 PC4/ADC12_IN14/ETH_MII_RXD0/ETH_RMII_RXD0, 25 PC5/ADC12_IN15/ETH_MII_RXD1/ETH_RMII_RXD1, 26 PB0/ADC12_IN8/TIM3_CH3/ETH_MII_RXD2/TIM1_CH2N, 27 PB1/ADC12_IN9/TIM3_CH4/ETH_MII_RXD3/TIM1_CH3N, 28 PB2/BOOT1 (io), 29 PB10/I2C2_SCL/USART3_TX/ETH_MII_RX_ER/TIM2_CH3, 30 PB11/I2C2_SDA/USART3_RX/ETH_MII_TX_EN/ETH_RMII_TX_EN/TIM2_CH4, 31 VSS_1 (power), 32 VDD_1 (power), 33 PB12/SPI2_NSS/I2S2_WS/I2C2_SMBA/USART3_CK/ TIM1_BKIN/CAN2_RX/ETH_MII_TXD0/ETH_RMII_TXD0, 34 PB13/SPI2_SCK/I2S2_CK/USART3_CTS/TIM1_CH1N/CAN2_TX/ETH_MII_TXD1/ETH_RMII_TXD1, 35 PB14/SPI2_MISO/TIM1_CH2N/USART3_RTS, 36 PB15/SPI2_MOSI/ I2S2_SD/TIM1_CH3N, 37 PC6/I2S2_MCK/TIM3_CH1, 38 PC7/I2S3_MCK/TIM3_CH2, 39 PC8/TIM3_CH3, 40 PC9/TIM3_CH4, 41 PA8/USART1_CK/OTG_FS_SOF/TIM1_CH1/MCO, 42 PA9/USART1_TX/TIM1_CH2/OTG_FS_VBUS, 43 PA10/USART1_RX/TIM1_CH3/OTG_FS_ID, 44 PA11/USART1_CTS/CAN1_RX/TIM1_CH4/OTG_FS_DM, 45 PA12/USART1_RTS/OTG_FS_DP/CAN1_TX/TIM1_ETR, 46 PA13/JTMS-SWDIO, 47 VSS_2 (power), 48 VDD_2 (power), 49 PA14/JTCK-SWCLK, 50 PA15/JTDI/SPI3_NSS/I2S3_WS/TIM2_CH1_ETR/SPI1_NSS, 51 PC10/UART4_TX/USART3_TX/SPI3_SCK/I2S3_CK, 52 PC11/UART4_RX/USART3_RX/SPI3_MISO, 53 PC12/UART5_TX/USART3_CK/SPI3_MOSI/I2S3_SD, 54 PD2/TIM3_ETR / UART5_RX, 55 PB3/JTDO/SPI3_SCK/I2S3_CK/TRACESWO/TIM2_CH2/SPI1_SCK, 56 PB4/NJTRST/SPI3_MISO/TIM3_CH1/SPI1_MISO, 57 PB5/I2C1_SMBA/SPI3_MOSI/ETH_MII_PPS_OUT/I2S3_SD/ETH_RMII_PPS_OUT/TIM3_CH2/SPI1_MOSI/CAN2_RX, 58 PB6/I2C1_SCL/TIM4_CH1/USART1_TX/CAN2_TX, 59 PB7/I2C1_SDA/TIM4_CH2/USART1_RX, 60 BOOT0 (in), 61 PB8/TIM4_CH3/ETH_MII_TXD3/I2C1_SCL/CAN1_RX, 62 PB9/TIM4_CH4/I2C1_SDA/CAN1_TX, 63 VSS_3 (power), 64 VDD_3 (power)
text: STM32F107

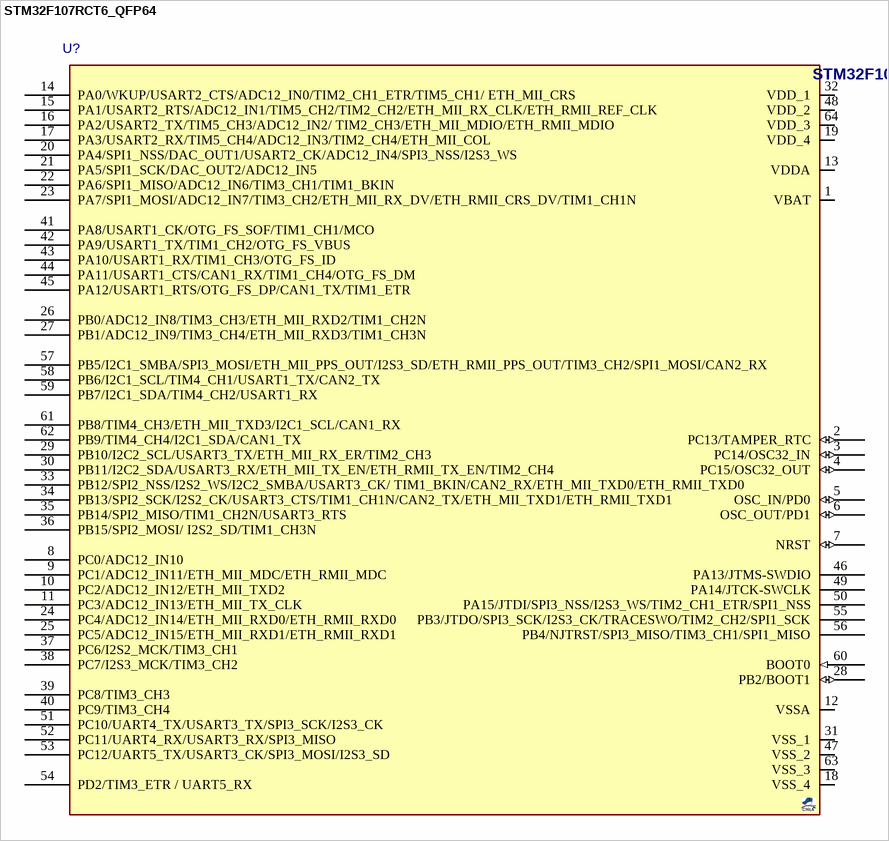
[diagram p13: symbol STM32F107RCT6_QFP64]

## STM32F107RCT6_QFP64
designator U?, comment STM32F107RCT6  (value not drawn)
MCU, STM32 ARM 32-bit, Cortex M3, 256KB FLASH, 64KB SRAM; DESC: USB OTG, ETHERNET, 2ADC, DAC, CAN, I2C, SPI, UART; MANF: ST; PARAM2: 2~3.6VCC, 72MHz, 2X12Bit ADC, 2X12Bit DAC; PARAM: 256KB FLASH, 64KB SRAM, -40~85oC; MANF_P#: STM32F107RCT6; PRICE: 9$; VALUE: STM32F107RCT6; PACKAGE: QFP-64
footprint QFG50_64 (A64 (CYPRESS), TQFP64, LQFP64, VQ44, VQG44, 10X10mm, Pitch: 0.5mm)
pins: 1 VBAT (power), 2 PC13/TAMPER_RTC (io) "PC13-TAMPER-RTC/PC13/TAMPER-RTC", 3 PC14/OSC32_IN (io) "PC14-OSC32_IN/PC14/OSC32_IN", 4 PC15/OSC32_OUT (io) "PC15-OSC32_OUT/PC15/OSC32_OUT", 5 OSC_IN/PD0 (io) "PD0/OSC_IN/CAN_RX", 6 OSC_OUT/PD1 (io) "PD1/OSC_OUT/CAN_TX", 7 NRST (io), 8 PC0/ADC12_IN10, 9 PC1/ADC12_IN11/ETH_MII_MDC/ETH_RMII_MDC, 10 PC2/ADC12_IN12/ETH_MII_TXD2, 11 PC3/ADC12_IN13/ETH_MII_TX_CLK, 12 VSSA (power), 13 VDDA (power), 14 PA0/WKUP/USART2_CTS/ADC12_IN0/TIM2_CH1_ETR/TIM5_CH1/ ETH_MII_CRS, 15 PA1/USART2_RTS/ADC12_IN1/TIM5_CH2/TIM2_CH2/ETH_MII_RX_CLK/ETH_RMII_REF_CLK, 16 PA2/USART2_TX/TIM5_CH3/ADC12_IN2/ TIM2_CH3/ETH_MII_MDIO/ETH_RMII_MDIO, 17 PA3/USART2_RX/TIM5_CH4/ADC12_IN3/TIM2_CH4/ETH_MII_COL, 18 VSS_4 (power), 19 VDD_4 (power), 20 PA4/SPI1_NSS/DAC_OUT1/USART2_CK/ADC12_IN4/SPI3_NSS/I2S3_WS, 21 PA5/SPI1_SCK/DAC_OUT2/ADC12_IN5, 22 PA6/SPI1_MISO/ADC12_IN6/TIM3_CH1/TIM1_BKIN, 23 PA7/SPI1_MOSI/ADC12_IN7/TIM3_CH2/ETH_MII_RX_DV/ETH_RMII_CRS_DV/TIM1_CH1N, 24 PC4/ADC12_IN14/ETH_MII_RXD0/ETH_RMII_RXD0, 25 PC5/ADC12_IN15/ETH_MII_RXD1/ETH_RMII_RXD1, 26 PB0/ADC12_IN8/TIM3_CH3/ETH_MII_RXD2/TIM1_CH2N, 27 PB1/ADC12_IN9/TIM3_CH4/ETH_MII_RXD3/TIM1_CH3N, 28 PB2/BOOT1 (io), 29 PB10/I2C2_SCL/USART3_TX/ETH_MII_RX_ER/TIM2_CH3, 30 PB11/I2C2_SDA/USART3_RX/ETH_MII_TX_EN/ETH_RMII_TX_EN/TIM2_CH4, 31 VSS_1 (power), 32 VDD_1 (power), 33 PB12/SPI2_NSS/I2S2_WS/I2C2_SMBA/USART3_CK/ TIM1_BKIN/CAN2_RX/ETH_MII_TXD0/ETH_RMII_TXD0, 34 PB13/SPI2_SCK/I2S2_CK/USART3_CTS/TIM1_CH1N/CAN2_TX/ETH_MII_TXD1/ETH_RMII_TXD1, 35 PB14/SPI2_MISO/TIM1_CH2N/USART3_RTS, 36 PB15/SPI2_MOSI/ I2S2_SD/TIM1_CH3N, 37 PC6/I2S2_MCK/TIM3_CH1, 38 PC7/I2S3_MCK/TIM3_CH2, 39 PC8/TIM3_CH3, 40 PC9/TIM3_CH4, 41 PA8/USART1_CK/OTG_FS_SOF/TIM1_CH1/MCO, 42 PA9/USART1_TX/TIM1_CH2/OTG_FS_VBUS, 43 PA10/USART1_RX/TIM1_CH3/OTG_FS_ID, 44 PA11/USART1_CTS/CAN1_RX/TIM1_CH4/OTG_FS_DM, 45 PA12/USART1_RTS/OTG_FS_DP/CAN1_TX/TIM1_ETR, 46 PA13/JTMS-SWDIO, 47 VSS_2 (power), 48 VDD_2 (power), 49 PA14/JTCK-SWCLK, 50 PA15/JTDI/SPI3_NSS/I2S3_WS/TIM2_CH1_ETR/SPI1_NSS, 51 PC10/UART4_TX/USART3_TX/SPI3_SCK/I2S3_CK, 52 PC11/UART4_RX/USART3_RX/SPI3_MISO, 53 PC12/UART5_TX/USART3_CK/SPI3_MOSI/I2S3_SD, 54 PD2/TIM3_ETR / UART5_RX, 55 PB3/JTDO/SPI3_SCK/I2S3_CK/TRACESWO/TIM2_CH2/SPI1_SCK, 56 PB4/NJTRST/SPI3_MISO/TIM3_CH1/SPI1_MISO, 57 PB5/I2C1_SMBA/SPI3_MOSI/ETH_MII_PPS_OUT/I2S3_SD/ETH_RMII_PPS_OUT/TIM3_CH2/SPI1_MOSI/CAN2_RX, 58 PB6/I2C1_SCL/TIM4_CH1/USART1_TX/CAN2_TX, 59 PB7/I2C1_SDA/TIM4_CH2/USART1_RX, 60 BOOT0 (in), 61 PB8/TIM4_CH3/ETH_MII_TXD3/I2C1_SCL/CAN1_RX, 62 PB9/TIM4_CH4/I2C1_SDA/CAN1_TX, 63 VSS_3 (power), 64 VDD_3 (power)
text: STM32F107

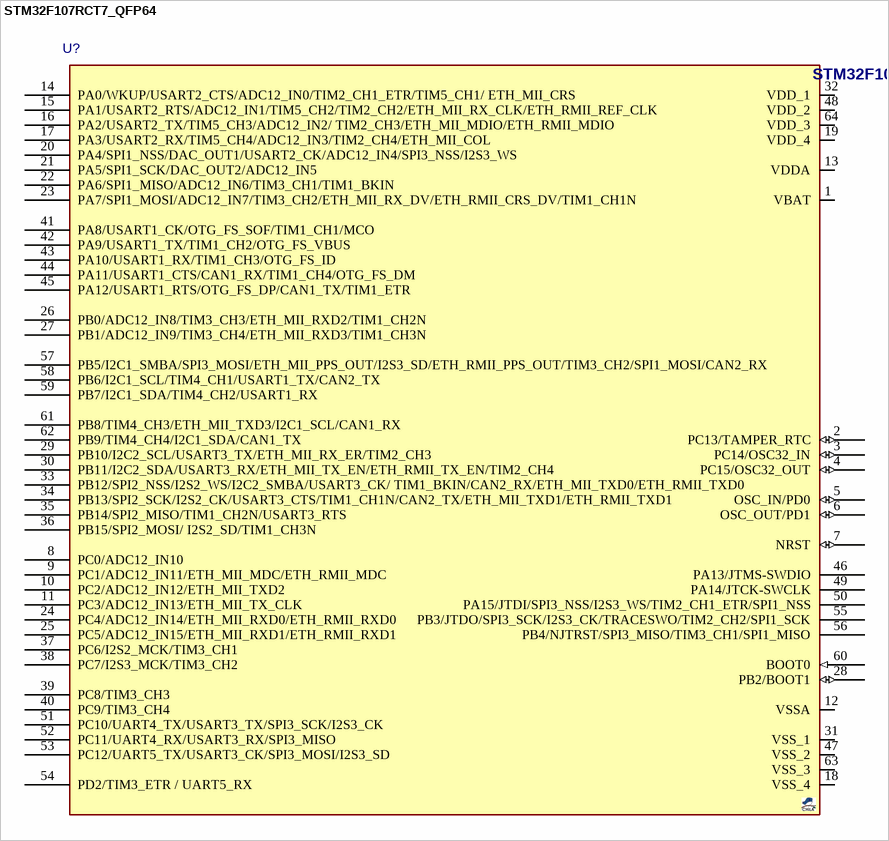
[diagram p14: symbol STM32F107RCT7_QFP64]

## STM32F107RCT7_QFP64
designator U?, comment STM32F107RCT7  (value not drawn)
MCU, STM32 ARM 32-bit, Cortex M3, 256KB FLASH, 64KB SRAM; DESC: USB OTG, ETHERNET, 2ADC, DAC, CAN, I2C, SPI, UART; MANF: ST; PARAM2: 2~3.6VCC, 72MHz, 2X12Bit ADC, 2X12Bit DAC; PARAM: 256KB FLASH, 64KB SRAM, -40~105oC; MANF_P#: STM32F107RCT7; PRICE: 8$; VALUE: STM32F107RCT7; PACKAGE: QFP-64
footprint QFG50_64 (A64 (CYPRESS), TQFP64, LQFP64, VQ44, VQG44, 10X10mm, Pitch: 0.5mm)
pins: 1 VBAT (power), 2 PC13/TAMPER_RTC (io) "PC13-TAMPER-RTC/PC13/TAMPER-RTC", 3 PC14/OSC32_IN (io) "PC14-OSC32_IN/PC14/OSC32_IN", 4 PC15/OSC32_OUT (io) "PC15-OSC32_OUT/PC15/OSC32_OUT", 5 OSC_IN/PD0 (io) "PD0/OSC_IN/CAN_RX", 6 OSC_OUT/PD1 (io) "PD1/OSC_OUT/CAN_TX", 7 NRST (io), 8 PC0/ADC12_IN10, 9 PC1/ADC12_IN11/ETH_MII_MDC/ETH_RMII_MDC, 10 PC2/ADC12_IN12/ETH_MII_TXD2, 11 PC3/ADC12_IN13/ETH_MII_TX_CLK, 12 VSSA (power), 13 VDDA (power), 14 PA0/WKUP/USART2_CTS/ADC12_IN0/TIM2_CH1_ETR/TIM5_CH1/ ETH_MII_CRS, 15 PA1/USART2_RTS/ADC12_IN1/TIM5_CH2/TIM2_CH2/ETH_MII_RX_CLK/ETH_RMII_REF_CLK, 16 PA2/USART2_TX/TIM5_CH3/ADC12_IN2/ TIM2_CH3/ETH_MII_MDIO/ETH_RMII_MDIO, 17 PA3/USART2_RX/TIM5_CH4/ADC12_IN3/TIM2_CH4/ETH_MII_COL, 18 VSS_4 (power), 19 VDD_4 (power), 20 PA4/SPI1_NSS/DAC_OUT1/USART2_CK/ADC12_IN4/SPI3_NSS/I2S3_WS, 21 PA5/SPI1_SCK/DAC_OUT2/ADC12_IN5, 22 PA6/SPI1_MISO/ADC12_IN6/TIM3_CH1/TIM1_BKIN, 23 PA7/SPI1_MOSI/ADC12_IN7/TIM3_CH2/ETH_MII_RX_DV/ETH_RMII_CRS_DV/TIM1_CH1N, 24 PC4/ADC12_IN14/ETH_MII_RXD0/ETH_RMII_RXD0, 25 PC5/ADC12_IN15/ETH_MII_RXD1/ETH_RMII_RXD1, 26 PB0/ADC12_IN8/TIM3_CH3/ETH_MII_RXD2/TIM1_CH2N, 27 PB1/ADC12_IN9/TIM3_CH4/ETH_MII_RXD3/TIM1_CH3N, 28 PB2/BOOT1 (io), 29 PB10/I2C2_SCL/USART3_TX/ETH_MII_RX_ER/TIM2_CH3, 30 PB11/I2C2_SDA/USART3_RX/ETH_MII_TX_EN/ETH_RMII_TX_EN/TIM2_CH4, 31 VSS_1 (power), 32 VDD_1 (power), 33 PB12/SPI2_NSS/I2S2_WS/I2C2_SMBA/USART3_CK/ TIM1_BKIN/CAN2_RX/ETH_MII_TXD0/ETH_RMII_TXD0, 34 PB13/SPI2_SCK/I2S2_CK/USART3_CTS/TIM1_CH1N/CAN2_TX/ETH_MII_TXD1/ETH_RMII_TXD1, 35 PB14/SPI2_MISO/TIM1_CH2N/USART3_RTS, 36 PB15/SPI2_MOSI/ I2S2_SD/TIM1_CH3N, 37 PC6/I2S2_MCK/TIM3_CH1, 38 PC7/I2S3_MCK/TIM3_CH2, 39 PC8/TIM3_CH3, 40 PC9/TIM3_CH4, 41 PA8/USART1_CK/OTG_FS_SOF/TIM1_CH1/MCO, 42 PA9/USART1_TX/TIM1_CH2/OTG_FS_VBUS, 43 PA10/USART1_RX/TIM1_CH3/OTG_FS_ID, 44 PA11/USART1_CTS/CAN1_RX/TIM1_CH4/OTG_FS_DM, 45 PA12/USART1_RTS/OTG_FS_DP/CAN1_TX/TIM1_ETR, 46 PA13/JTMS-SWDIO, 47 VSS_2 (power), 48 VDD_2 (power), 49 PA14/JTCK-SWCLK, 50 PA15/JTDI/SPI3_NSS/I2S3_WS/TIM2_CH1_ETR/SPI1_NSS, 51 PC10/UART4_TX/USART3_TX/SPI3_SCK/I2S3_CK, 52 PC11/UART4_RX/USART3_RX/SPI3_MISO, 53 PC12/UART5_TX/USART3_CK/SPI3_MOSI/I2S3_SD, 54 PD2/TIM3_ETR / UART5_RX, 55 PB3/JTDO/SPI3_SCK/I2S3_CK/TRACESWO/TIM2_CH2/SPI1_SCK, 56 PB4/NJTRST/SPI3_MISO/TIM3_CH1/SPI1_MISO, 57 PB5/I2C1_SMBA/SPI3_MOSI/ETH_MII_PPS_OUT/I2S3_SD/ETH_RMII_PPS_OUT/TIM3_CH2/SPI1_MOSI/CAN2_RX, 58 PB6/I2C1_SCL/TIM4_CH1/USART1_TX/CAN2_TX, 59 PB7/I2C1_SDA/TIM4_CH2/USART1_RX, 60 BOOT0 (in), 61 PB8/TIM4_CH3/ETH_MII_TXD3/I2C1_SCL/CAN1_RX, 62 PB9/TIM4_CH4/I2C1_SDA/CAN1_TX, 63 VSS_3 (power), 64 VDD_3 (power)
text: STM32F107

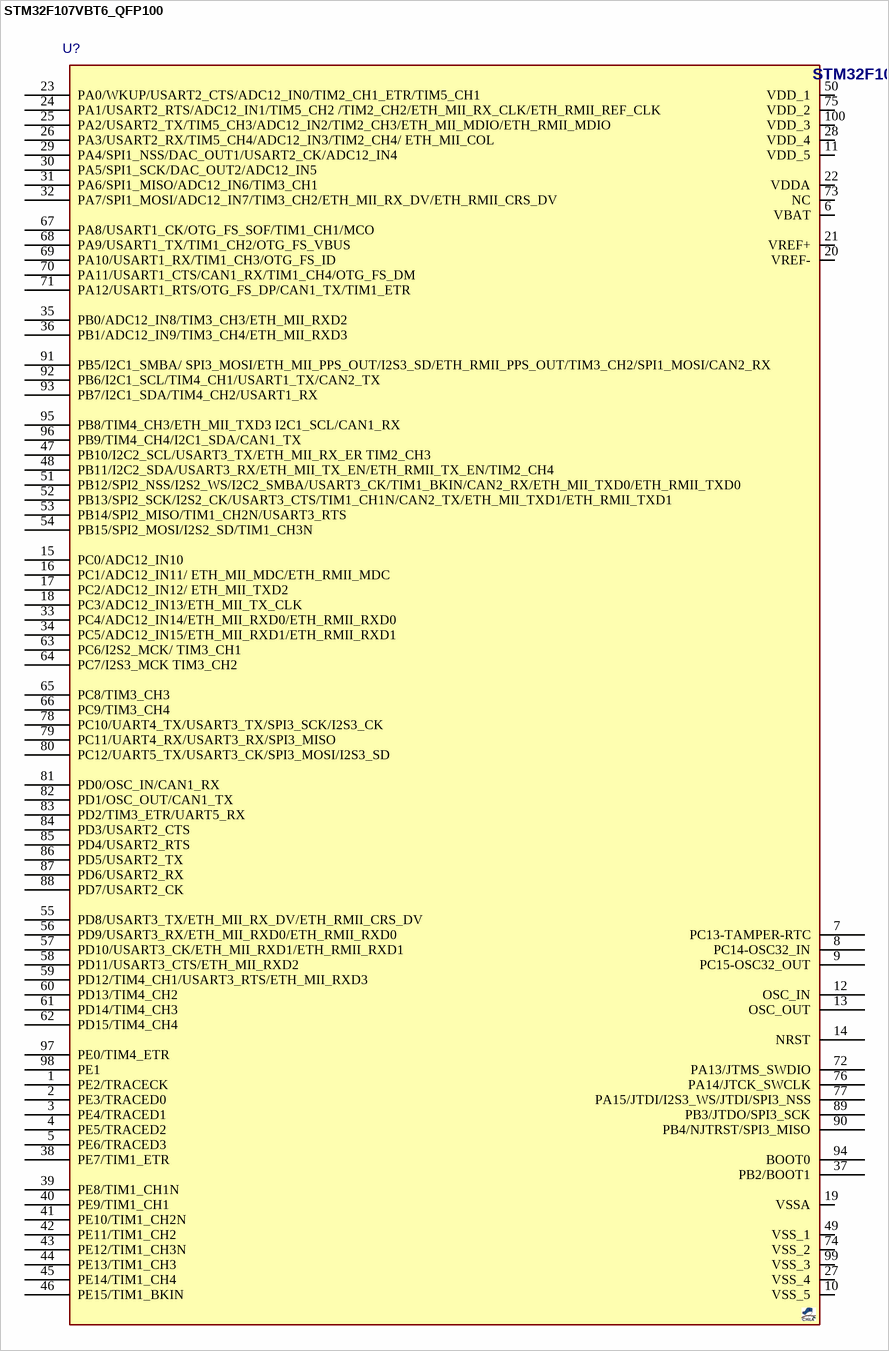
[diagram p15: symbol STM32F107VBT6_QFP100]